# Altium schematic symbol library TI Stellaris.SchLib: 293 symbols (part 7 of 7)
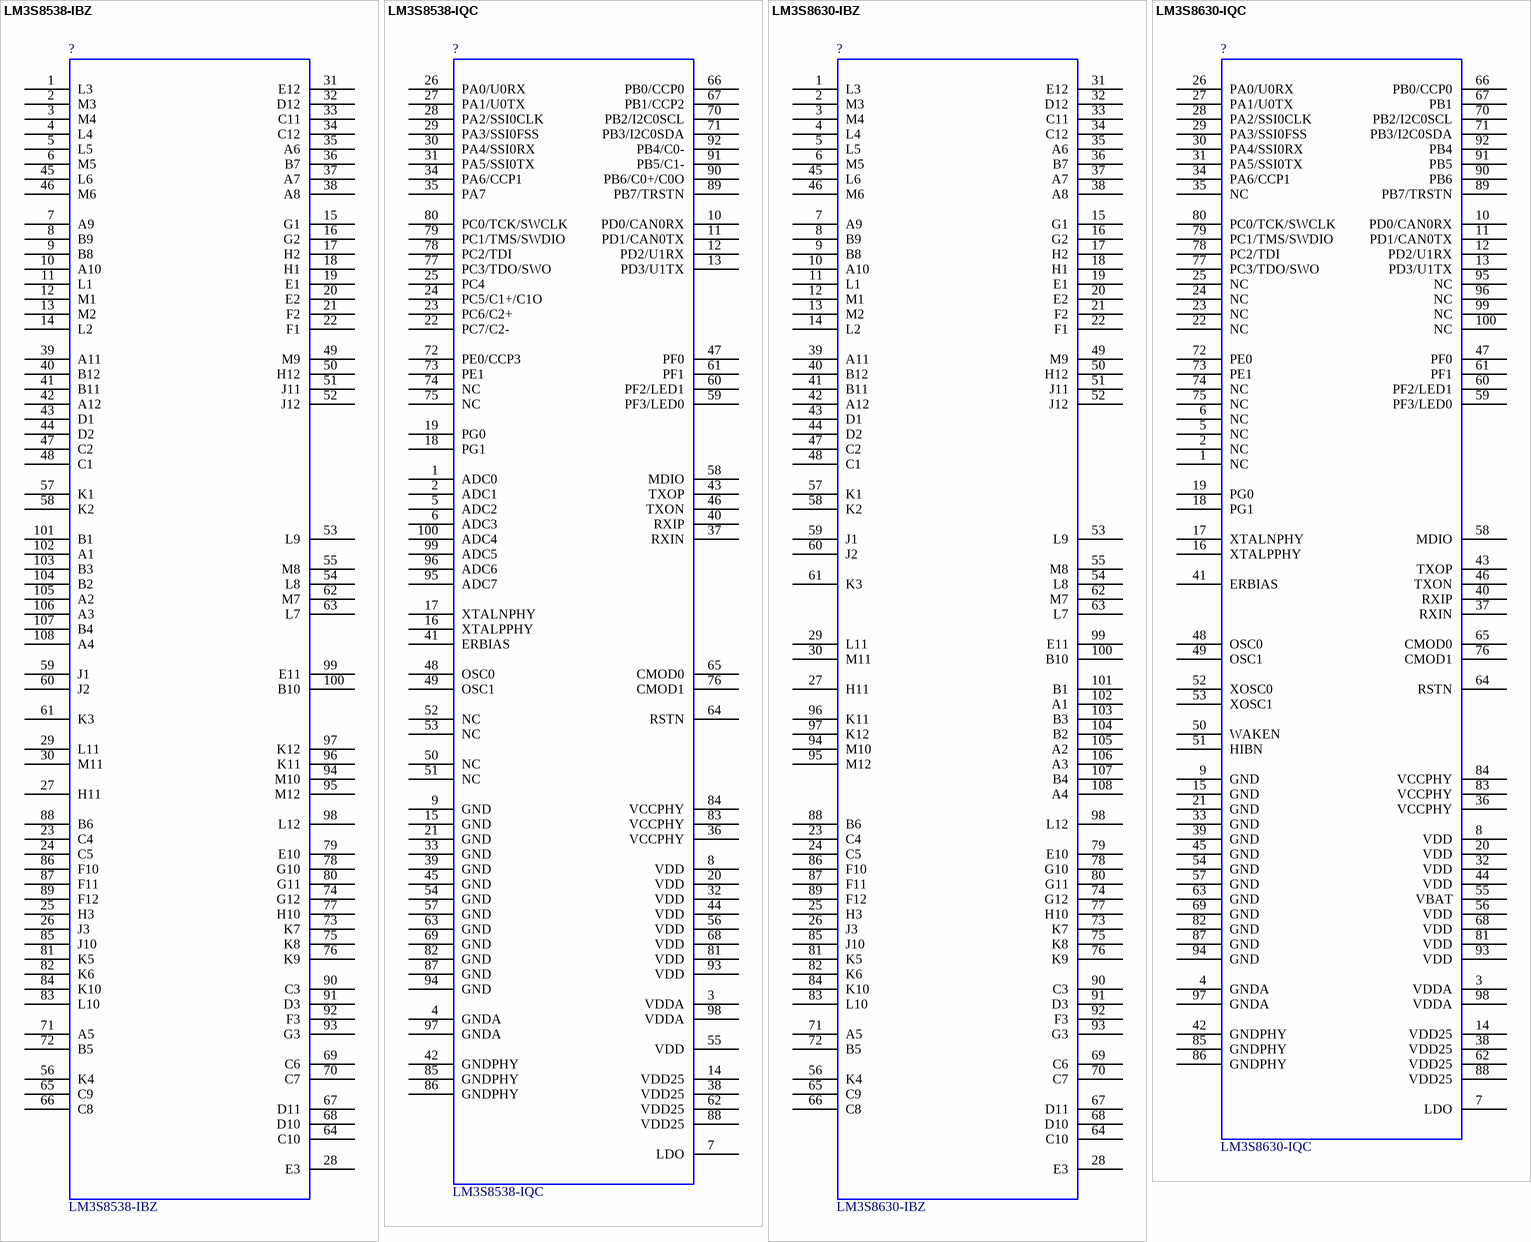
[diagram p75: symbols LM3S8538-IBZ to LM3S8630-IQC]

## LM3S8538-IBZ
designator ?  Comment_1: LM3S8538-IBZ  (hidden comment: *)
Stellaris ARM Cortex-M3 Microcontroller; Manufacturer #1: Luminary Micro; LMI Class: Fury; Designator: U; Part Number: LM3S8538-IBZ
footprint BGA108C80P12X12_1000X1000X150
pins: 1 L3, 2 M3, 3 M4, 4 L4, 5 L5, 6 M5, 7 A9, 8 B9, 9 B8, 10 A10, 11 L1, 12 M1, 13 M2, 14 L2, 15 G1, 16 G2, 17 H2, 18 H1, 19 E1, 20 E2, 21 F2, 22 F1, 23 C4, 24 C5, 25 H3, 26 J3, 27 H11, 28 E3, 29 L11, 30 M11, 31 E12, 32 D12, 33 C11, 34 C12, 35 A6, 36 B7, 37 A7, 38 A8, 39 A11, 40 B12, 41 B11, 42 A12, 43 D1, 44 D2, 45 L6, 46 M6, 47 C2, 48 C1, 49 M9, 50 H12, 51 J11, 52 J12, 53 L9, 54 L8, 55 M8, 56 K4, 57 K1, 58 K2, 59 J1, 60 J2, 61 K3, 62 M7, 63 L7, 64 C10, 65 C9, 66 C8, 67 D11, 68 D10, 69 C6, 70 C7, 71 A5, 72 B5, 73 K7, 74 G12, 75 K8, 76 K9, 77 H10, 78 G10, 79 E10, 80 G11, 81 K5, 82 K6, 83 L10, 84 K10, 85 J10, 86 F10, 87 F11, 88 B6, 89 F12, 90 C3, 91 D3, 92 F3, 93 G3, 94 M10, 95 M12, 96 K11, 97 K12, 98 L12, 99 E11, 100 B10, 101 B1, 102 A1, 103 B3, 104 B2, 105 A2, 106 A3, 107 B4, 108 A4

## LM3S8538-IQC
designator ?  Comment_1: LM3S8538-IQC  (hidden comment: *)
Stellaris ARM Cortex-M3 Microcontroller; Manufacturer #1: Luminary Micro; LMI Class: Fury; Designator: U; Part Number: LM3S8538-IQC
footprint QFP50P1600X1600X160-100N
pins: 1 ADC0, 2 ADC1, 3 VDDA, 4 GNDA, 5 ADC2, 6 ADC3, 7 LDO, 8 VDD, 9 GND, 10 PD0/CAN0RX, 11 PD1/CAN0TX, 12 PD2/U1RX, 13 PD3/U1TX, 14 VDD25, 15 GND, 16 XTALPPHY, 17 XTALNPHY, 18 PG1, 19 PG0, 20 VDD, 21 GND, 22 PC7/C2-, 23 PC6/C2+, 24 PC5/C1+/C1O, 25 PC4, 26 PA0/U0RX, 27 PA1/U0TX, 28 PA2/SSI0CLK, 29 PA3/SSI0FSS, 30 PA4/SSI0RX, 31 PA5/SSI0TX, 32 VDD, 33 GND, 34 PA6/CCP1, 35 PA7, 36 VCCPHY, 37 RXIN, 38 VDD25, 39 GND, 40 RXIP, 41 ERBIAS, 42 GNDPHY, 43 TXOP, 44 VDD, 45 GND, 46 TXON, 47 PF0, 48 OSC0, 49 OSC1, 50 NC, 51 NC, 52 NC, 53 NC, 54 GND, 55 VDD, 56 VDD, 57 GND, 58 MDIO, 59 PF3/LED0, 60 PF2/LED1, 61 PF1, 62 VDD25, 63 GND, 64 RSTN, 65 CMOD0, 66 PB0/CCP0, 67 PB1/CCP2, 68 VDD, 69 GND, 70 PB2/I2C0SCL, 71 PB3/I2C0SDA, 72 PE0/CCP3, 73 PE1, 74 NC, 75 NC, 76 CMOD1, 77 PC3/TDO/SWO, 78 PC2/TDI, 79 PC1/TMS/SWDIO, 80 PC0/TCK/SWCLK, 81 VDD, 82 GND, 83 VCCPHY, 84 VCCPHY, 85 GNDPHY, 86 GNDPHY, 87 GND, 88 VDD25, 89 PB7/TRSTN, 90 PB6/C0+/C0O, 91 PB5/C1-, 92 PB4/C0-, 93 VDD, 94 GND, 95 ADC7, 96 ADC6, 97 GNDA, 98 VDDA, 99 ADC5, 100 ADC4

## LM3S8630-IBZ
designator ?  Comment_1: LM3S8630-IBZ  (hidden comment: *)
Stellaris ARM Cortex-M3 Microcontroller; Manufacturer #1: Luminary Micro; LMI Class: Fury; Designator: U; Part Number: LM3S8630-IBZ
footprint BGA108C80P12X12_1000X1000X150
pins: 1 L3, 2 M3, 3 M4, 4 L4, 5 L5, 6 M5, 7 A9, 8 B9, 9 B8, 10 A10, 11 L1, 12 M1, 13 M2, 14 L2, 15 G1, 16 G2, 17 H2, 18 H1, 19 E1, 20 E2, 21 F2, 22 F1, 23 C4, 24 C5, 25 H3, 26 J3, 27 H11, 28 E3, 29 L11, 30 M11, 31 E12, 32 D12, 33 C11, 34 C12, 35 A6, 36 B7, 37 A7, 38 A8, 39 A11, 40 B12, 41 B11, 42 A12, 43 D1, 44 D2, 45 L6, 46 M6, 47 C2, 48 C1, 49 M9, 50 H12, 51 J11, 52 J12, 53 L9, 54 L8, 55 M8, 56 K4, 57 K1, 58 K2, 59 J1, 60 J2, 61 K3, 62 M7, 63 L7, 64 C10, 65 C9, 66 C8, 67 D11, 68 D10, 69 C6, 70 C7, 71 A5, 72 B5, 73 K7, 74 G12, 75 K8, 76 K9, 77 H10, 78 G10, 79 E10, 80 G11, 81 K5, 82 K6, 83 L10, 84 K10, 85 J10, 86 F10, 87 F11, 88 B6, 89 F12, 90 C3, 91 D3, 92 F3, 93 G3, 94 M10, 95 M12, 96 K11, 97 K12, 98 L12, 99 E11, 100 B10, 101 B1, 102 A1, 103 B3, 104 B2, 105 A2, 106 A3, 107 B4, 108 A4

## LM3S8630-IQC
designator ?  Comment_1: LM3S8630-IQC  (hidden comment: *)
Stellaris ARM Cortex-M3 Microcontroller; Manufacturer #1: Luminary Micro; LMI Class: Fury; Designator: U; Part Number: LM3S8630-IQC
footprint QFP50P1600X1600X160-100N
pins: 1 NC, 2 NC, 3 VDDA, 4 GNDA, 5 NC, 6 NC, 7 LDO, 8 VDD, 9 GND, 10 PD0/CAN0RX, 11 PD1/CAN0TX, 12 PD2/U1RX, 13 PD3/U1TX, 14 VDD25, 15 GND, 16 XTALPPHY, 17 XTALNPHY, 18 PG1, 19 PG0, 20 VDD, 21 GND, 22 NC, 23 NC, 24 NC, 25 NC, 26 PA0/U0RX, 27 PA1/U0TX, 28 PA2/SSI0CLK, 29 PA3/SSI0FSS, 30 PA4/SSI0RX, 31 PA5/SSI0TX, 32 VDD, 33 GND, 34 PA6/CCP1, 35 NC, 36 VCCPHY, 37 RXIN, 38 VDD25, 39 GND, 40 RXIP, 41 ERBIAS, 42 GNDPHY, 43 TXOP, 44 VDD, 45 GND, 46 TXON, 47 PF0, 48 OSC0, 49 OSC1, 50 WAKEN, 51 HIBN, 52 XOSC0, 53 XOSC1, 54 GND, 55 VBAT, 56 VDD, 57 GND, 58 MDIO, 59 PF3/LED0, 60 PF2/LED1, 61 PF1, 62 VDD25, 63 GND, 64 RSTN, 65 CMOD0, 66 PB0/CCP0, 67 PB1, 68 VDD, 69 GND, 70 PB2/I2C0SCL, 71 PB3/I2C0SDA, 72 PE0, 73 PE1, 74 NC, 75 NC, 76 CMOD1, 77 PC3/TDO/SWO, 78 PC2/TDI, 79 PC1/TMS/SWDIO, 80 PC0/TCK/SWCLK, 81 VDD, 82 GND, 83 VCCPHY, 84 VCCPHY, 85 GNDPHY, 86 GNDPHY, 87 GND, 88 VDD25, 89 PB7/TRSTN, 90 PB6, 91 PB5, 92 PB4, 93 VDD, 94 GND, 95 NC, 96 NC, 97 GNDA, 98 VDDA, 99 NC, 100 NC

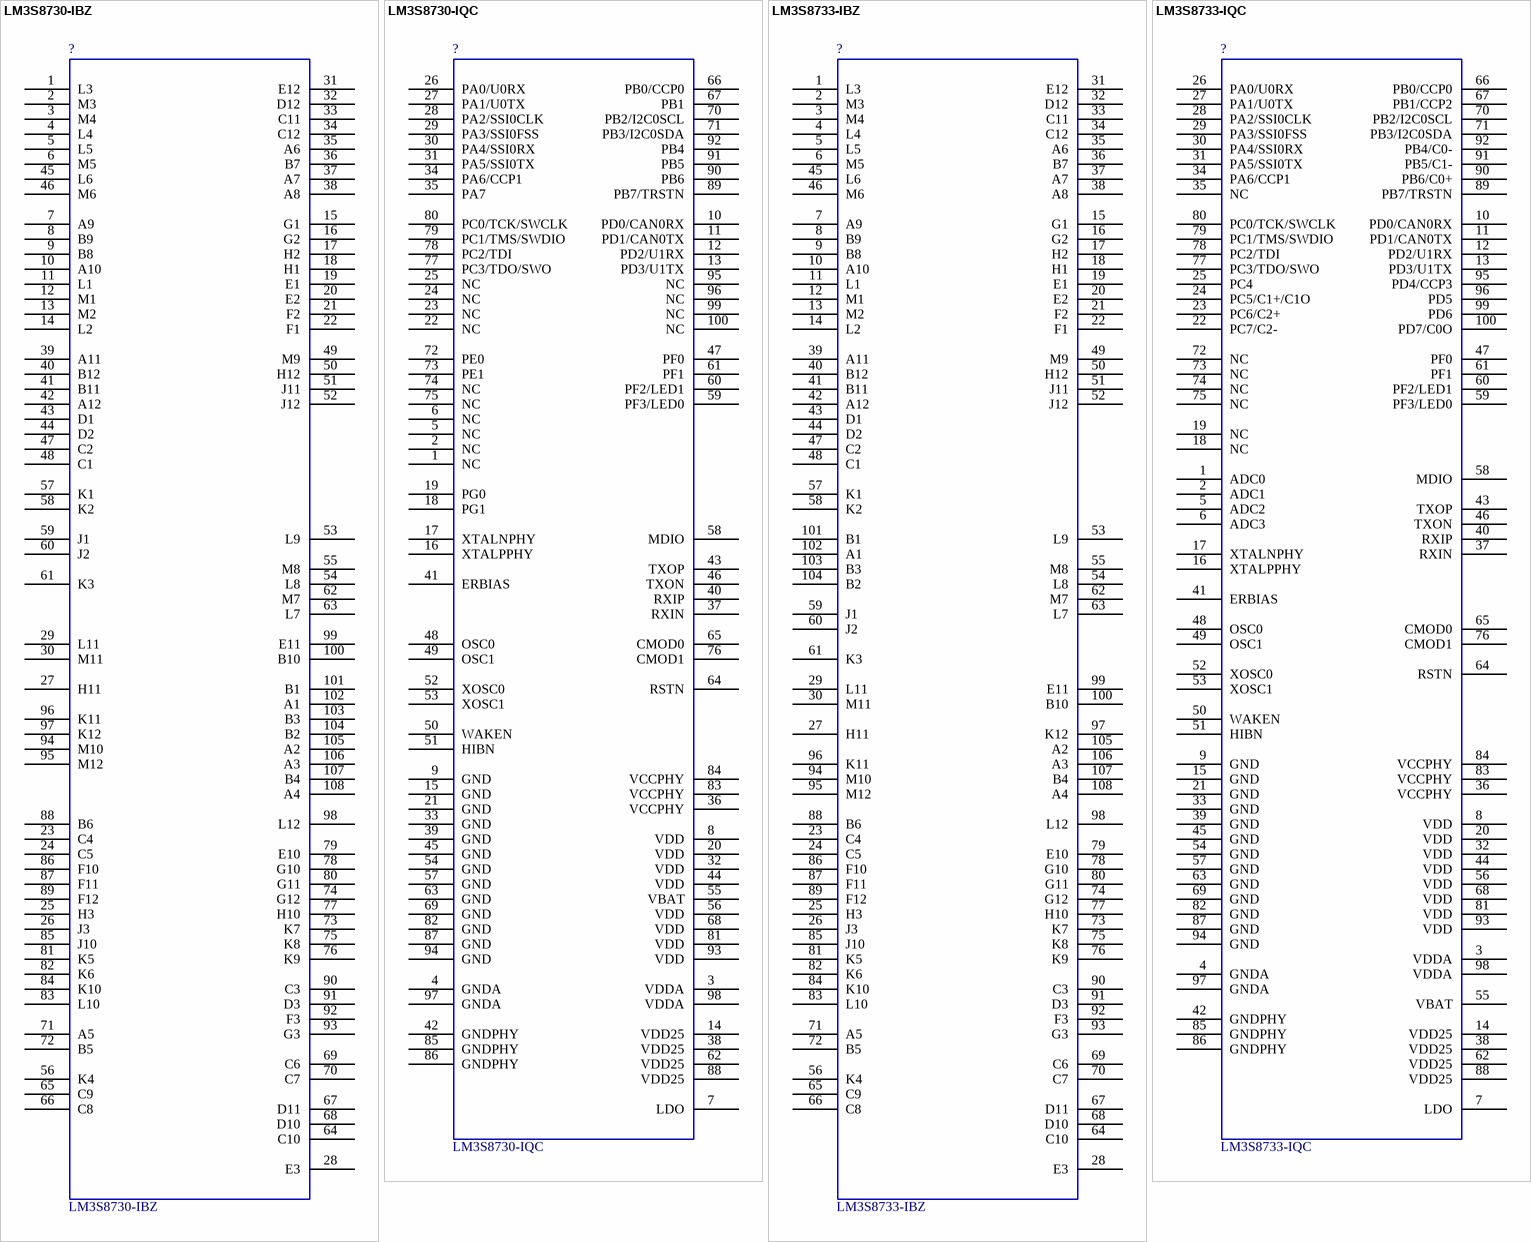
[diagram p63: symbols LM3S8730-IBZ to LM3S8733-IQC]

## LM3S8730-IBZ
designator ?  Comment_1: LM3S8730-IBZ  (hidden comment: *)
Stellaris ARM Cortex-M3 Microcontroller; Manufacturer #1: Luminary Micro; LMI Class: Fury; Designator: U; Part Number: LM3S8730-IBZ
footprint BGA108C80P12X12_1000X1000X150
pins: 1 L3, 2 M3, 3 M4, 4 L4, 5 L5, 6 M5, 7 A9, 8 B9, 9 B8, 10 A10, 11 L1, 12 M1, 13 M2, 14 L2, 15 G1, 16 G2, 17 H2, 18 H1, 19 E1, 20 E2, 21 F2, 22 F1, 23 C4, 24 C5, 25 H3, 26 J3, 27 H11, 28 E3, 29 L11, 30 M11, 31 E12, 32 D12, 33 C11, 34 C12, 35 A6, 36 B7, 37 A7, 38 A8, 39 A11, 40 B12, 41 B11, 42 A12, 43 D1, 44 D2, 45 L6, 46 M6, 47 C2, 48 C1, 49 M9, 50 H12, 51 J11, 52 J12, 53 L9, 54 L8, 55 M8, 56 K4, 57 K1, 58 K2, 59 J1, 60 J2, 61 K3, 62 M7, 63 L7, 64 C10, 65 C9, 66 C8, 67 D11, 68 D10, 69 C6, 70 C7, 71 A5, 72 B5, 73 K7, 74 G12, 75 K8, 76 K9, 77 H10, 78 G10, 79 E10, 80 G11, 81 K5, 82 K6, 83 L10, 84 K10, 85 J10, 86 F10, 87 F11, 88 B6, 89 F12, 90 C3, 91 D3, 92 F3, 93 G3, 94 M10, 95 M12, 96 K11, 97 K12, 98 L12, 99 E11, 100 B10, 101 B1, 102 A1, 103 B3, 104 B2, 105 A2, 106 A3, 107 B4, 108 A4

## LM3S8730-IQC
designator ?  Comment_1: LM3S8730-IQC  (hidden comment: *)
Stellaris ARM Cortex-M3 Microcontroller; Manufacturer #1: Luminary Micro; LMI Class: Fury; Designator: U; Part Number: LM3S8730-IQC
footprint QFP50P1600X1600X160-100N
pins: 1 NC, 2 NC, 3 VDDA, 4 GNDA, 5 NC, 6 NC, 7 LDO, 8 VDD, 9 GND, 10 PD0/CAN0RX, 11 PD1/CAN0TX, 12 PD2/U1RX, 13 PD3/U1TX, 14 VDD25, 15 GND, 16 XTALPPHY, 17 XTALNPHY, 18 PG1, 19 PG0, 20 VDD, 21 GND, 22 NC, 23 NC, 24 NC, 25 NC, 26 PA0/U0RX, 27 PA1/U0TX, 28 PA2/SSI0CLK, 29 PA3/SSI0FSS, 30 PA4/SSI0RX, 31 PA5/SSI0TX, 32 VDD, 33 GND, 34 PA6/CCP1, 35 PA7, 36 VCCPHY, 37 RXIN, 38 VDD25, 39 GND, 40 RXIP, 41 ERBIAS, 42 GNDPHY, 43 TXOP, 44 VDD, 45 GND, 46 TXON, 47 PF0, 48 OSC0, 49 OSC1, 50 WAKEN, 51 HIBN, 52 XOSC0, 53 XOSC1, 54 GND, 55 VBAT, 56 VDD, 57 GND, 58 MDIO, 59 PF3/LED0, 60 PF2/LED1, 61 PF1, 62 VDD25, 63 GND, 64 RSTN, 65 CMOD0, 66 PB0/CCP0, 67 PB1, 68 VDD, 69 GND, 70 PB2/I2C0SCL, 71 PB3/I2C0SDA, 72 PE0, 73 PE1, 74 NC, 75 NC, 76 CMOD1, 77 PC3/TDO/SWO, 78 PC2/TDI, 79 PC1/TMS/SWDIO, 80 PC0/TCK/SWCLK, 81 VDD, 82 GND, 83 VCCPHY, 84 VCCPHY, 85 GNDPHY, 86 GNDPHY, 87 GND, 88 VDD25, 89 PB7/TRSTN, 90 PB6, 91 PB5, 92 PB4, 93 VDD, 94 GND, 95 NC, 96 NC, 97 GNDA, 98 VDDA, 99 NC, 100 NC

## LM3S8733-IBZ
designator ?  Comment_1: LM3S8733-IBZ  (hidden comment: *)
Stellaris ARM Cortex-M3 Microcontroller; Manufacturer #1: Luminary Micro; LMI Class: Fury; Designator: U; Part Number: LM3S8733-IBZ
footprint BGA108C80P12X12_1000X1000X150
pins: 1 L3, 2 M3, 3 M4, 4 L4, 5 L5, 6 M5, 7 A9, 8 B9, 9 B8, 10 A10, 11 L1, 12 M1, 13 M2, 14 L2, 15 G1, 16 G2, 17 H2, 18 H1, 19 E1, 20 E2, 21 F2, 22 F1, 23 C4, 24 C5, 25 H3, 26 J3, 27 H11, 28 E3, 29 L11, 30 M11, 31 E12, 32 D12, 33 C11, 34 C12, 35 A6, 36 B7, 37 A7, 38 A8, 39 A11, 40 B12, 41 B11, 42 A12, 43 D1, 44 D2, 45 L6, 46 M6, 47 C2, 48 C1, 49 M9, 50 H12, 51 J11, 52 J12, 53 L9, 54 L8, 55 M8, 56 K4, 57 K1, 58 K2, 59 J1, 60 J2, 61 K3, 62 M7, 63 L7, 64 C10, 65 C9, 66 C8, 67 D11, 68 D10, 69 C6, 70 C7, 71 A5, 72 B5, 73 K7, 74 G12, 75 K8, 76 K9, 77 H10, 78 G10, 79 E10, 80 G11, 81 K5, 82 K6, 83 L10, 84 K10, 85 J10, 86 F10, 87 F11, 88 B6, 89 F12, 90 C3, 91 D3, 92 F3, 93 G3, 94 M10, 95 M12, 96 K11, 97 K12, 98 L12, 99 E11, 100 B10, 101 B1, 102 A1, 103 B3, 104 B2, 105 A2, 106 A3, 107 B4, 108 A4

## LM3S8733-IQC
designator ?  Comment_1: LM3S8733-IQC  (hidden comment: *)
Stellaris ARM Cortex-M3 Microcontroller; Manufacturer #1: Luminary Micro; LMI Class: Fury; Designator: U; Part Number: LM3S8733-IQC
footprint QFP50P1600X1600X160-100N
pins: 1 ADC0, 2 ADC1, 3 VDDA, 4 GNDA, 5 ADC2, 6 ADC3, 7 LDO, 8 VDD, 9 GND, 10 PD0/CAN0RX, 11 PD1/CAN0TX, 12 PD2/U1RX, 13 PD3/U1TX, 14 VDD25, 15 GND, 16 XTALPPHY, 17 XTALNPHY, 18 NC, 19 NC, 20 VDD, 21 GND, 22 PC7/C2-, 23 PC6/C2+, 24 PC5/C1+/C1O, 25 PC4, 26 PA0/U0RX, 27 PA1/U0TX, 28 PA2/SSI0CLK, 29 PA3/SSI0FSS, 30 PA4/SSI0RX, 31 PA5/SSI0TX, 32 VDD, 33 GND, 34 PA6/CCP1, 35 NC, 36 VCCPHY, 37 RXIN, 38 VDD25, 39 GND, 40 RXIP, 41 ERBIAS, 42 GNDPHY, 43 TXOP, 44 VDD, 45 GND, 46 TXON, 47 PF0, 48 OSC0, 49 OSC1, 50 WAKEN, 51 HIBN, 52 XOSC0, 53 XOSC1, 54 GND, 55 VBAT, 56 VDD, 57 GND, 58 MDIO, 59 PF3/LED0, 60 PF2/LED1, 61 PF1, 62 VDD25, 63 GND, 64 RSTN, 65 CMOD0, 66 PB0/CCP0, 67 PB1/CCP2, 68 VDD, 69 GND, 70 PB2/I2C0SCL, 71 PB3/I2C0SDA, 72 NC, 73 NC, 74 NC, 75 NC, 76 CMOD1, 77 PC3/TDO/SWO, 78 PC2/TDI, 79 PC1/TMS/SWDIO, 80 PC0/TCK/SWCLK, 81 VDD, 82 GND, 83 VCCPHY, 84 VCCPHY, 85 GNDPHY, 86 GNDPHY, 87 GND, 88 VDD25, 89 PB7/TRSTN, 90 PB6/C0+, 91 PB5/C1-, 92 PB4/C0-, 93 VDD, 94 GND, 95 PD4/CCP3, 96 PD5, 97 GNDA, 98 VDDA, 99 PD6, 100 PD7/C0O

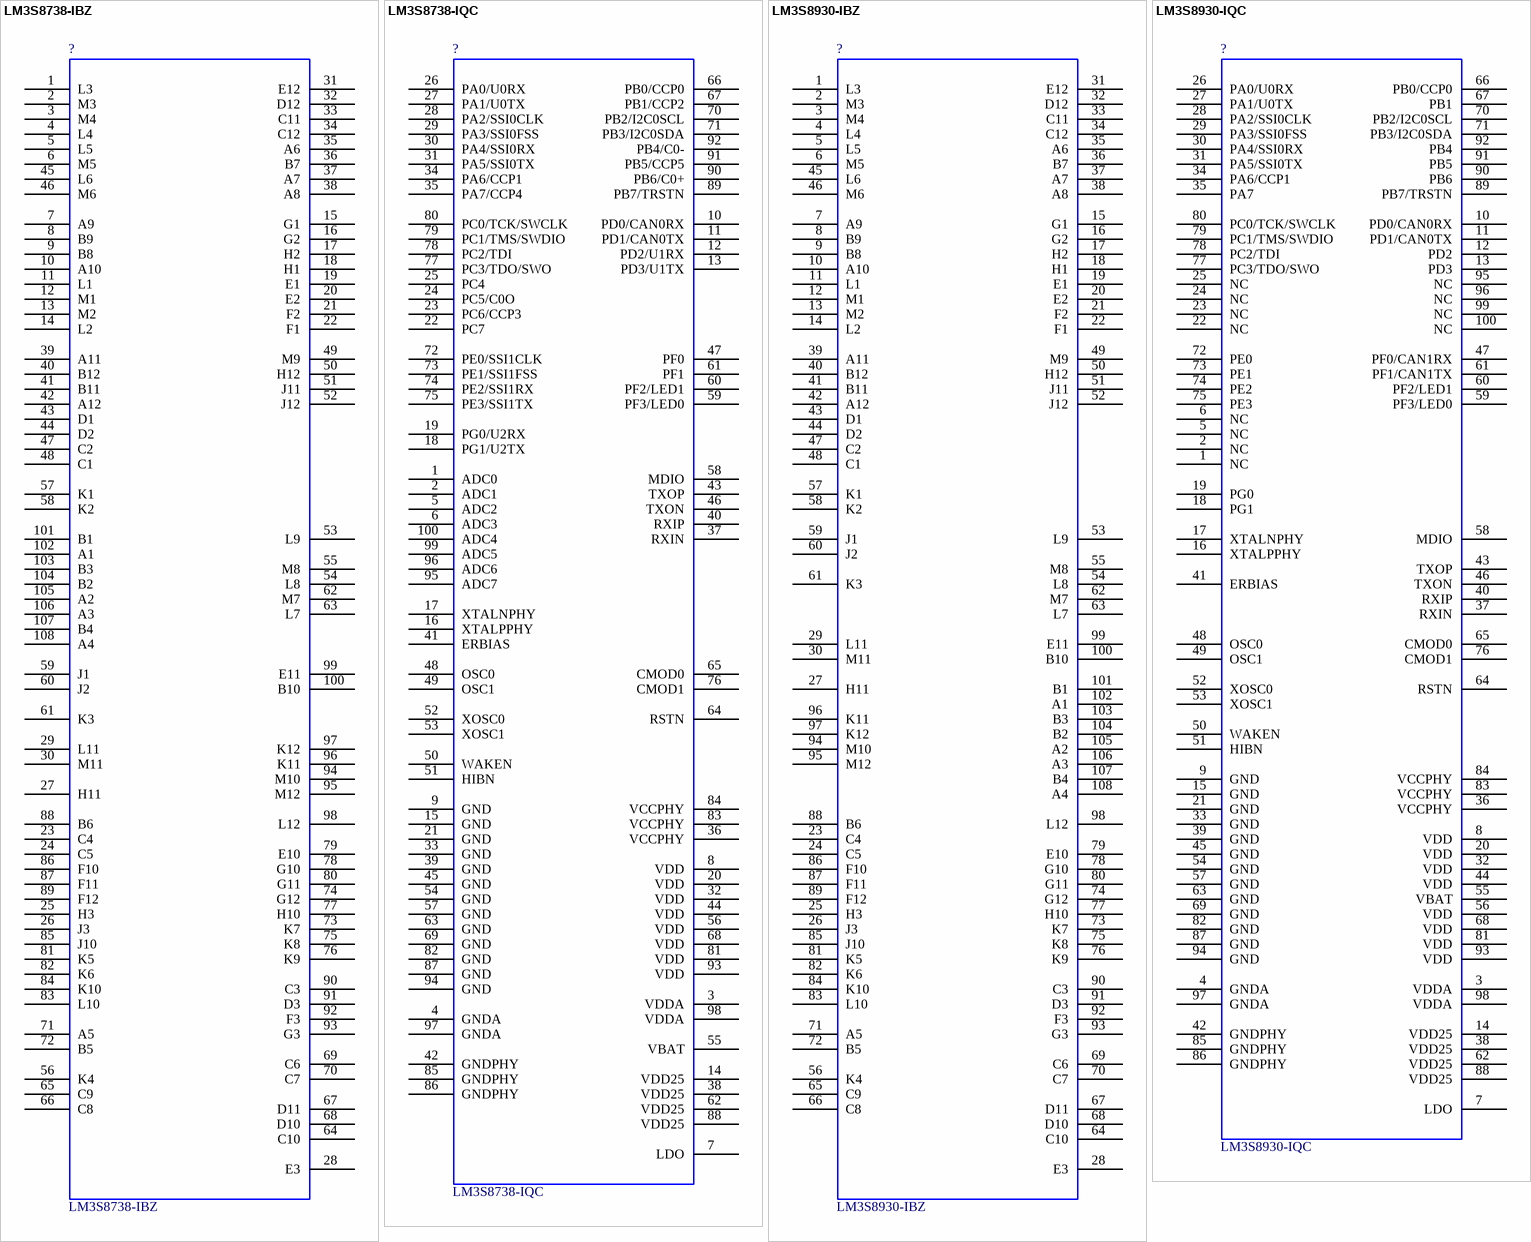
[diagram p64: symbols LM3S8738-IBZ to LM3S8930-IQC]

## LM3S8738-IBZ
designator ?  Comment_1: LM3S8738-IBZ  (hidden comment: *)
Stellaris ARM Cortex-M3 Microcontroller; Manufacturer #1: Luminary Micro; LMI Class: Fury; Designator: U; Part Number: LM3S8738-IBZ
footprint BGA108C80P12X12_1000X1000X150
pins: 1 L3, 2 M3, 3 M4, 4 L4, 5 L5, 6 M5, 7 A9, 8 B9, 9 B8, 10 A10, 11 L1, 12 M1, 13 M2, 14 L2, 15 G1, 16 G2, 17 H2, 18 H1, 19 E1, 20 E2, 21 F2, 22 F1, 23 C4, 24 C5, 25 H3, 26 J3, 27 H11, 28 E3, 29 L11, 30 M11, 31 E12, 32 D12, 33 C11, 34 C12, 35 A6, 36 B7, 37 A7, 38 A8, 39 A11, 40 B12, 41 B11, 42 A12, 43 D1, 44 D2, 45 L6, 46 M6, 47 C2, 48 C1, 49 M9, 50 H12, 51 J11, 52 J12, 53 L9, 54 L8, 55 M8, 56 K4, 57 K1, 58 K2, 59 J1, 60 J2, 61 K3, 62 M7, 63 L7, 64 C10, 65 C9, 66 C8, 67 D11, 68 D10, 69 C6, 70 C7, 71 A5, 72 B5, 73 K7, 74 G12, 75 K8, 76 K9, 77 H10, 78 G10, 79 E10, 80 G11, 81 K5, 82 K6, 83 L10, 84 K10, 85 J10, 86 F10, 87 F11, 88 B6, 89 F12, 90 C3, 91 D3, 92 F3, 93 G3, 94 M10, 95 M12, 96 K11, 97 K12, 98 L12, 99 E11, 100 B10, 101 B1, 102 A1, 103 B3, 104 B2, 105 A2, 106 A3, 107 B4, 108 A4

## LM3S8738-IQC
designator ?  Comment_1: LM3S8738-IQC  (hidden comment: *)
Stellaris ARM Cortex-M3 Microcontroller; Manufacturer #1: Luminary Micro; LMI Class: Fury; Designator: U; Part Number: LM3S8738-IQC
footprint QFP50P1600X1600X160-100N
pins: 1 ADC0, 2 ADC1, 3 VDDA, 4 GNDA, 5 ADC2, 6 ADC3, 7 LDO, 8 VDD, 9 GND, 10 PD0/CAN0RX, 11 PD1/CAN0TX, 12 PD2/U1RX, 13 PD3/U1TX, 14 VDD25, 15 GND, 16 XTALPPHY, 17 XTALNPHY, 18 PG1/U2TX, 19 PG0/U2RX, 20 VDD, 21 GND, 22 PC7, 23 PC6/CCP3, 24 PC5/C0O, 25 PC4, 26 PA0/U0RX, 27 PA1/U0TX, 28 PA2/SSI0CLK, 29 PA3/SSI0FSS, 30 PA4/SSI0RX, 31 PA5/SSI0TX, 32 VDD, 33 GND, 34 PA6/CCP1, 35 PA7/CCP4, 36 VCCPHY, 37 RXIN, 38 VDD25, 39 GND, 40 RXIP, 41 ERBIAS, 42 GNDPHY, 43 TXOP, 44 VDD, 45 GND, 46 TXON, 47 PF0, 48 OSC0, 49 OSC1, 50 WAKEN, 51 HIBN, 52 XOSC0, 53 XOSC1, 54 GND, 55 VBAT, 56 VDD, 57 GND, 58 MDIO, 59 PF3/LED0, 60 PF2/LED1, 61 PF1, 62 VDD25, 63 GND, 64 RSTN, 65 CMOD0, 66 PB0/CCP0, 67 PB1/CCP2, 68 VDD, 69 GND, 70 PB2/I2C0SCL, 71 PB3/I2C0SDA, 72 PE0/SSI1CLK, 73 PE1/SSI1FSS, 74 PE2/SSI1RX, 75 PE3/SSI1TX, 76 CMOD1, 77 PC3/TDO/SWO, 78 PC2/TDI, 79 PC1/TMS/SWDIO, 80 PC0/TCK/SWCLK, 81 VDD, 82 GND, 83 VCCPHY, 84 VCCPHY, 85 GNDPHY, 86 GNDPHY, 87 GND, 88 VDD25, 89 PB7/TRSTN, 90 PB6/C0+, 91 PB5/CCP5, 92 PB4/C0-, 93 VDD, 94 GND, 95 ADC7, 96 ADC6, 97 GNDA, 98 VDDA, 99 ADC5, 100 ADC4

## LM3S8930-IBZ
designator ?  Comment_1: LM3S8930-IBZ  (hidden comment: *)
Stellaris ARM Cortex-M3 Microcontroller; Manufacturer #1: Luminary Micro; LMI Class: Fury; Designator: U; Part Number: LM3S8930-IBZ
footprint BGA108C80P12X12_1000X1000X150
pins: 1 L3, 2 M3, 3 M4, 4 L4, 5 L5, 6 M5, 7 A9, 8 B9, 9 B8, 10 A10, 11 L1, 12 M1, 13 M2, 14 L2, 15 G1, 16 G2, 17 H2, 18 H1, 19 E1, 20 E2, 21 F2, 22 F1, 23 C4, 24 C5, 25 H3, 26 J3, 27 H11, 28 E3, 29 L11, 30 M11, 31 E12, 32 D12, 33 C11, 34 C12, 35 A6, 36 B7, 37 A7, 38 A8, 39 A11, 40 B12, 41 B11, 42 A12, 43 D1, 44 D2, 45 L6, 46 M6, 47 C2, 48 C1, 49 M9, 50 H12, 51 J11, 52 J12, 53 L9, 54 L8, 55 M8, 56 K4, 57 K1, 58 K2, 59 J1, 60 J2, 61 K3, 62 M7, 63 L7, 64 C10, 65 C9, 66 C8, 67 D11, 68 D10, 69 C6, 70 C7, 71 A5, 72 B5, 73 K7, 74 G12, 75 K8, 76 K9, 77 H10, 78 G10, 79 E10, 80 G11, 81 K5, 82 K6, 83 L10, 84 K10, 85 J10, 86 F10, 87 F11, 88 B6, 89 F12, 90 C3, 91 D3, 92 F3, 93 G3, 94 M10, 95 M12, 96 K11, 97 K12, 98 L12, 99 E11, 100 B10, 101 B1, 102 A1, 103 B3, 104 B2, 105 A2, 106 A3, 107 B4, 108 A4

## LM3S8930-IQC
designator ?  Comment_1: LM3S8930-IQC  (hidden comment: *)
Stellaris ARM Cortex-M3 Microcontroller; Manufacturer #1: Luminary Micro; LMI Class: Fury; Designator: U; Part Number: LM3S8930-IQC
footprint QFP50P1600X1600X160-100N
pins: 1 NC, 2 NC, 3 VDDA, 4 GNDA, 5 NC, 6 NC, 7 LDO, 8 VDD, 9 GND, 10 PD0/CAN0RX, 11 PD1/CAN0TX, 12 PD2, 13 PD3, 14 VDD25, 15 GND, 16 XTALPPHY, 17 XTALNPHY, 18 PG1, 19 PG0, 20 VDD, 21 GND, 22 NC, 23 NC, 24 NC, 25 NC, 26 PA0/U0RX, 27 PA1/U0TX, 28 PA2/SSI0CLK, 29 PA3/SSI0FSS, 30 PA4/SSI0RX, 31 PA5/SSI0TX, 32 VDD, 33 GND, 34 PA6/CCP1, 35 PA7, 36 VCCPHY, 37 RXIN, 38 VDD25, 39 GND, 40 RXIP, 41 ERBIAS, 42 GNDPHY, 43 TXOP, 44 VDD, 45 GND, 46 TXON, 47 PF0/CAN1RX, 48 OSC0, 49 OSC1, 50 WAKEN, 51 HIBN, 52 XOSC0, 53 XOSC1, 54 GND, 55 VBAT, 56 VDD, 57 GND, 58 MDIO, 59 PF3/LED0, 60 PF2/LED1, 61 PF1/CAN1TX, 62 VDD25, 63 GND, 64 RSTN, 65 CMOD0, 66 PB0/CCP0, 67 PB1, 68 VDD, 69 GND, 70 PB2/I2C0SCL, 71 PB3/I2C0SDA, 72 PE0, 73 PE1, 74 PE2, 75 PE3, 76 CMOD1, 77 PC3/TDO/SWO, 78 PC2/TDI, 79 PC1/TMS/SWDIO, 80 PC0/TCK/SWCLK, 81 VDD, 82 GND, 83 VCCPHY, 84 VCCPHY, 85 GNDPHY, 86 GNDPHY, 87 GND, 88 VDD25, 89 PB7/TRSTN, 90 PB6, 91 PB5, 92 PB4, 93 VDD, 94 GND, 95 NC, 96 NC, 97 GNDA, 98 VDDA, 99 NC, 100 NC

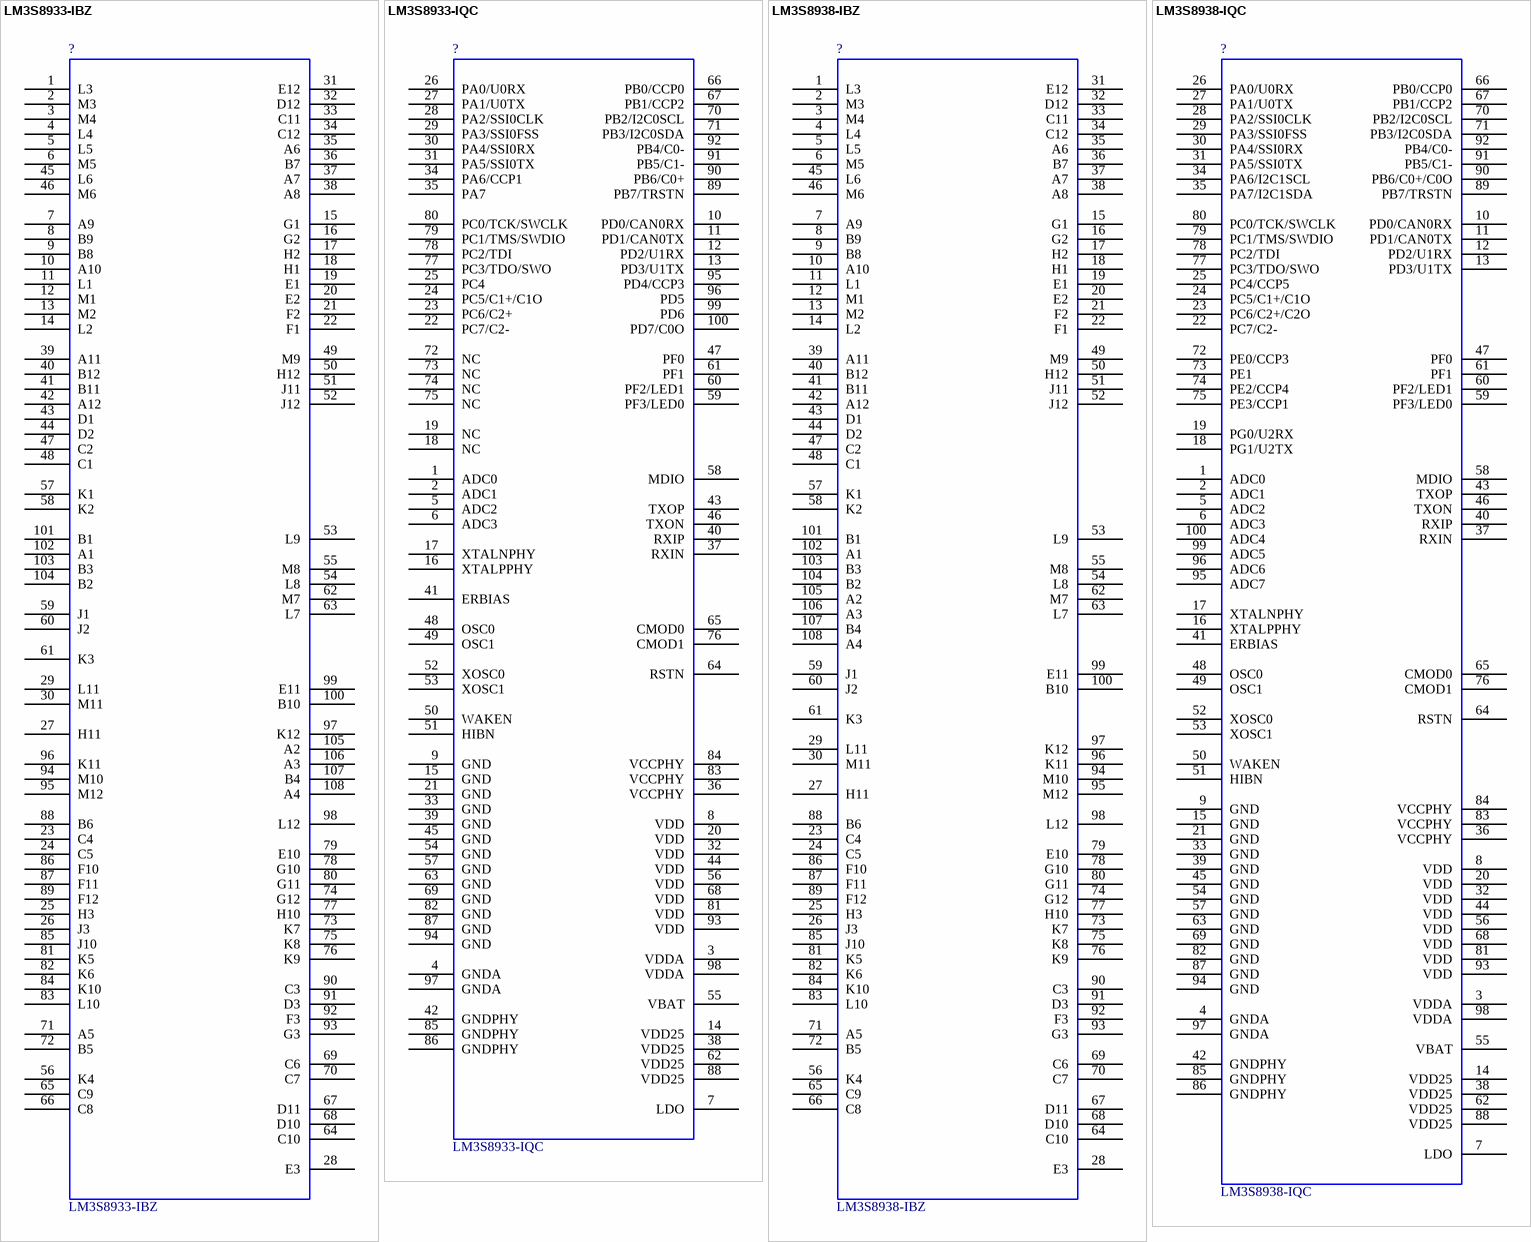
[diagram p65: symbols LM3S8933-IBZ to LM3S8938-IQC]

## LM3S8933-IBZ
designator ?  Comment_1: LM3S8933-IBZ  (hidden comment: *)
Stellaris ARM Cortex-M3 Microcontroller; Manufacturer #1: Luminary Micro; LMI Class: Fury; Designator: U; Part Number: LM3S8933-IBZ
footprint BGA108C80P12X12_1000X1000X150
pins: 1 L3, 2 M3, 3 M4, 4 L4, 5 L5, 6 M5, 7 A9, 8 B9, 9 B8, 10 A10, 11 L1, 12 M1, 13 M2, 14 L2, 15 G1, 16 G2, 17 H2, 18 H1, 19 E1, 20 E2, 21 F2, 22 F1, 23 C4, 24 C5, 25 H3, 26 J3, 27 H11, 28 E3, 29 L11, 30 M11, 31 E12, 32 D12, 33 C11, 34 C12, 35 A6, 36 B7, 37 A7, 38 A8, 39 A11, 40 B12, 41 B11, 42 A12, 43 D1, 44 D2, 45 L6, 46 M6, 47 C2, 48 C1, 49 M9, 50 H12, 51 J11, 52 J12, 53 L9, 54 L8, 55 M8, 56 K4, 57 K1, 58 K2, 59 J1, 60 J2, 61 K3, 62 M7, 63 L7, 64 C10, 65 C9, 66 C8, 67 D11, 68 D10, 69 C6, 70 C7, 71 A5, 72 B5, 73 K7, 74 G12, 75 K8, 76 K9, 77 H10, 78 G10, 79 E10, 80 G11, 81 K5, 82 K6, 83 L10, 84 K10, 85 J10, 86 F10, 87 F11, 88 B6, 89 F12, 90 C3, 91 D3, 92 F3, 93 G3, 94 M10, 95 M12, 96 K11, 97 K12, 98 L12, 99 E11, 100 B10, 101 B1, 102 A1, 103 B3, 104 B2, 105 A2, 106 A3, 107 B4, 108 A4

## LM3S8933-IQC
designator ?  Comment_1: LM3S8933-IQC  (hidden comment: *)
Stellaris ARM Cortex-M3 Microcontroller; Manufacturer #1: Luminary Micro; LMI Class: Fury; Designator: U; Part Number: LM3S8933-IQC
footprint QFP50P1600X1600X160-100N
pins: 1 ADC0, 2 ADC1, 3 VDDA, 4 GNDA, 5 ADC2, 6 ADC3, 7 LDO, 8 VDD, 9 GND, 10 PD0/CAN0RX, 11 PD1/CAN0TX, 12 PD2/U1RX, 13 PD3/U1TX, 14 VDD25, 15 GND, 16 XTALPPHY, 17 XTALNPHY, 18 NC, 19 NC, 20 VDD, 21 GND, 22 PC7/C2-, 23 PC6/C2+, 24 PC5/C1+/C1O, 25 PC4, 26 PA0/U0RX, 27 PA1/U0TX, 28 PA2/SSI0CLK, 29 PA3/SSI0FSS, 30 PA4/SSI0RX, 31 PA5/SSI0TX, 32 VDD, 33 GND, 34 PA6/CCP1, 35 PA7, 36 VCCPHY, 37 RXIN, 38 VDD25, 39 GND, 40 RXIP, 41 ERBIAS, 42 GNDPHY, 43 TXOP, 44 VDD, 45 GND, 46 TXON, 47 PF0, 48 OSC0, 49 OSC1, 50 WAKEN, 51 HIBN, 52 XOSC0, 53 XOSC1, 54 GND, 55 VBAT, 56 VDD, 57 GND, 58 MDIO, 59 PF3/LED0, 60 PF2/LED1, 61 PF1, 62 VDD25, 63 GND, 64 RSTN, 65 CMOD0, 66 PB0/CCP0, 67 PB1/CCP2, 68 VDD, 69 GND, 70 PB2/I2C0SCL, 71 PB3/I2C0SDA, 72 NC, 73 NC, 74 NC, 75 NC, 76 CMOD1, 77 PC3/TDO/SWO, 78 PC2/TDI, 79 PC1/TMS/SWDIO, 80 PC0/TCK/SWCLK, 81 VDD, 82 GND, 83 VCCPHY, 84 VCCPHY, 85 GNDPHY, 86 GNDPHY, 87 GND, 88 VDD25, 89 PB7/TRSTN, 90 PB6/C0+, 91 PB5/C1-, 92 PB4/C0-, 93 VDD, 94 GND, 95 PD4/CCP3, 96 PD5, 97 GNDA, 98 VDDA, 99 PD6, 100 PD7/C0O

## LM3S8938-IBZ
designator ?  Comment_1: LM3S8938-IBZ  (hidden comment: *)
Stellaris ARM Cortex-M3 Microcontroller; Manufacturer #1: Luminary Micro; LMI Class: Fury; Designator: U; Part Number: LM3S8938-IBZ
footprint BGA108C80P12X12_1000X1000X150
pins: 1 L3, 2 M3, 3 M4, 4 L4, 5 L5, 6 M5, 7 A9, 8 B9, 9 B8, 10 A10, 11 L1, 12 M1, 13 M2, 14 L2, 15 G1, 16 G2, 17 H2, 18 H1, 19 E1, 20 E2, 21 F2, 22 F1, 23 C4, 24 C5, 25 H3, 26 J3, 27 H11, 28 E3, 29 L11, 30 M11, 31 E12, 32 D12, 33 C11, 34 C12, 35 A6, 36 B7, 37 A7, 38 A8, 39 A11, 40 B12, 41 B11, 42 A12, 43 D1, 44 D2, 45 L6, 46 M6, 47 C2, 48 C1, 49 M9, 50 H12, 51 J11, 52 J12, 53 L9, 54 L8, 55 M8, 56 K4, 57 K1, 58 K2, 59 J1, 60 J2, 61 K3, 62 M7, 63 L7, 64 C10, 65 C9, 66 C8, 67 D11, 68 D10, 69 C6, 70 C7, 71 A5, 72 B5, 73 K7, 74 G12, 75 K8, 76 K9, 77 H10, 78 G10, 79 E10, 80 G11, 81 K5, 82 K6, 83 L10, 84 K10, 85 J10, 86 F10, 87 F11, 88 B6, 89 F12, 90 C3, 91 D3, 92 F3, 93 G3, 94 M10, 95 M12, 96 K11, 97 K12, 98 L12, 99 E11, 100 B10, 101 B1, 102 A1, 103 B3, 104 B2, 105 A2, 106 A3, 107 B4, 108 A4

## LM3S8938-IQC
designator ?  Comment_1: LM3S8938-IQC  (hidden comment: *)
Stellaris ARM Cortex-M3 Microcontroller; Manufacturer #1: Luminary Micro; LMI Class: Fury; Designator: U; Part Number: LM3S8938-IQC
footprint QFP50P1600X1600X160-100N
pins: 1 ADC0, 2 ADC1, 3 VDDA, 4 GNDA, 5 ADC2, 6 ADC3, 7 LDO, 8 VDD, 9 GND, 10 PD0/CAN0RX, 11 PD1/CAN0TX, 12 PD2/U1RX, 13 PD3/U1TX, 14 VDD25, 15 GND, 16 XTALPPHY, 17 XTALNPHY, 18 PG1/U2TX, 19 PG0/U2RX, 20 VDD, 21 GND, 22 PC7/C2-, 23 PC6/C2+/C2O, 24 PC5/C1+/C1O, 25 PC4/CCP5, 26 PA0/U0RX, 27 PA1/U0TX, 28 PA2/SSI0CLK, 29 PA3/SSI0FSS, 30 PA4/SSI0RX, 31 PA5/SSI0TX, 32 VDD, 33 GND, 34 PA6/I2C1SCL, 35 PA7/I2C1SDA, 36 VCCPHY, 37 RXIN, 38 VDD25, 39 GND, 40 RXIP, 41 ERBIAS, 42 GNDPHY, 43 TXOP, 44 VDD, 45 GND, 46 TXON, 47 PF0, 48 OSC0, 49 OSC1, 50 WAKEN, 51 HIBN, 52 XOSC0, 53 XOSC1, 54 GND, 55 VBAT, 56 VDD, 57 GND, 58 MDIO, 59 PF3/LED0, 60 PF2/LED1, 61 PF1, 62 VDD25, 63 GND, 64 RSTN, 65 CMOD0, 66 PB0/CCP0, 67 PB1/CCP2, 68 VDD, 69 GND, 70 PB2/I2C0SCL, 71 PB3/I2C0SDA, 72 PE0/CCP3, 73 PE1, 74 PE2/CCP4, 75 PE3/CCP1, 76 CMOD1, 77 PC3/TDO/SWO, 78 PC2/TDI, 79 PC1/TMS/SWDIO, 80 PC0/TCK/SWCLK, 81 VDD, 82 GND, 83 VCCPHY, 84 VCCPHY, 85 GNDPHY, 86 GNDPHY, 87 GND, 88 VDD25, 89 PB7/TRSTN, 90 PB6/C0+/C0O, 91 PB5/C1-, 92 PB4/C0-, 93 VDD, 94 GND, 95 ADC7, 96 ADC6, 97 GNDA, 98 VDDA, 99 ADC5, 100 ADC4

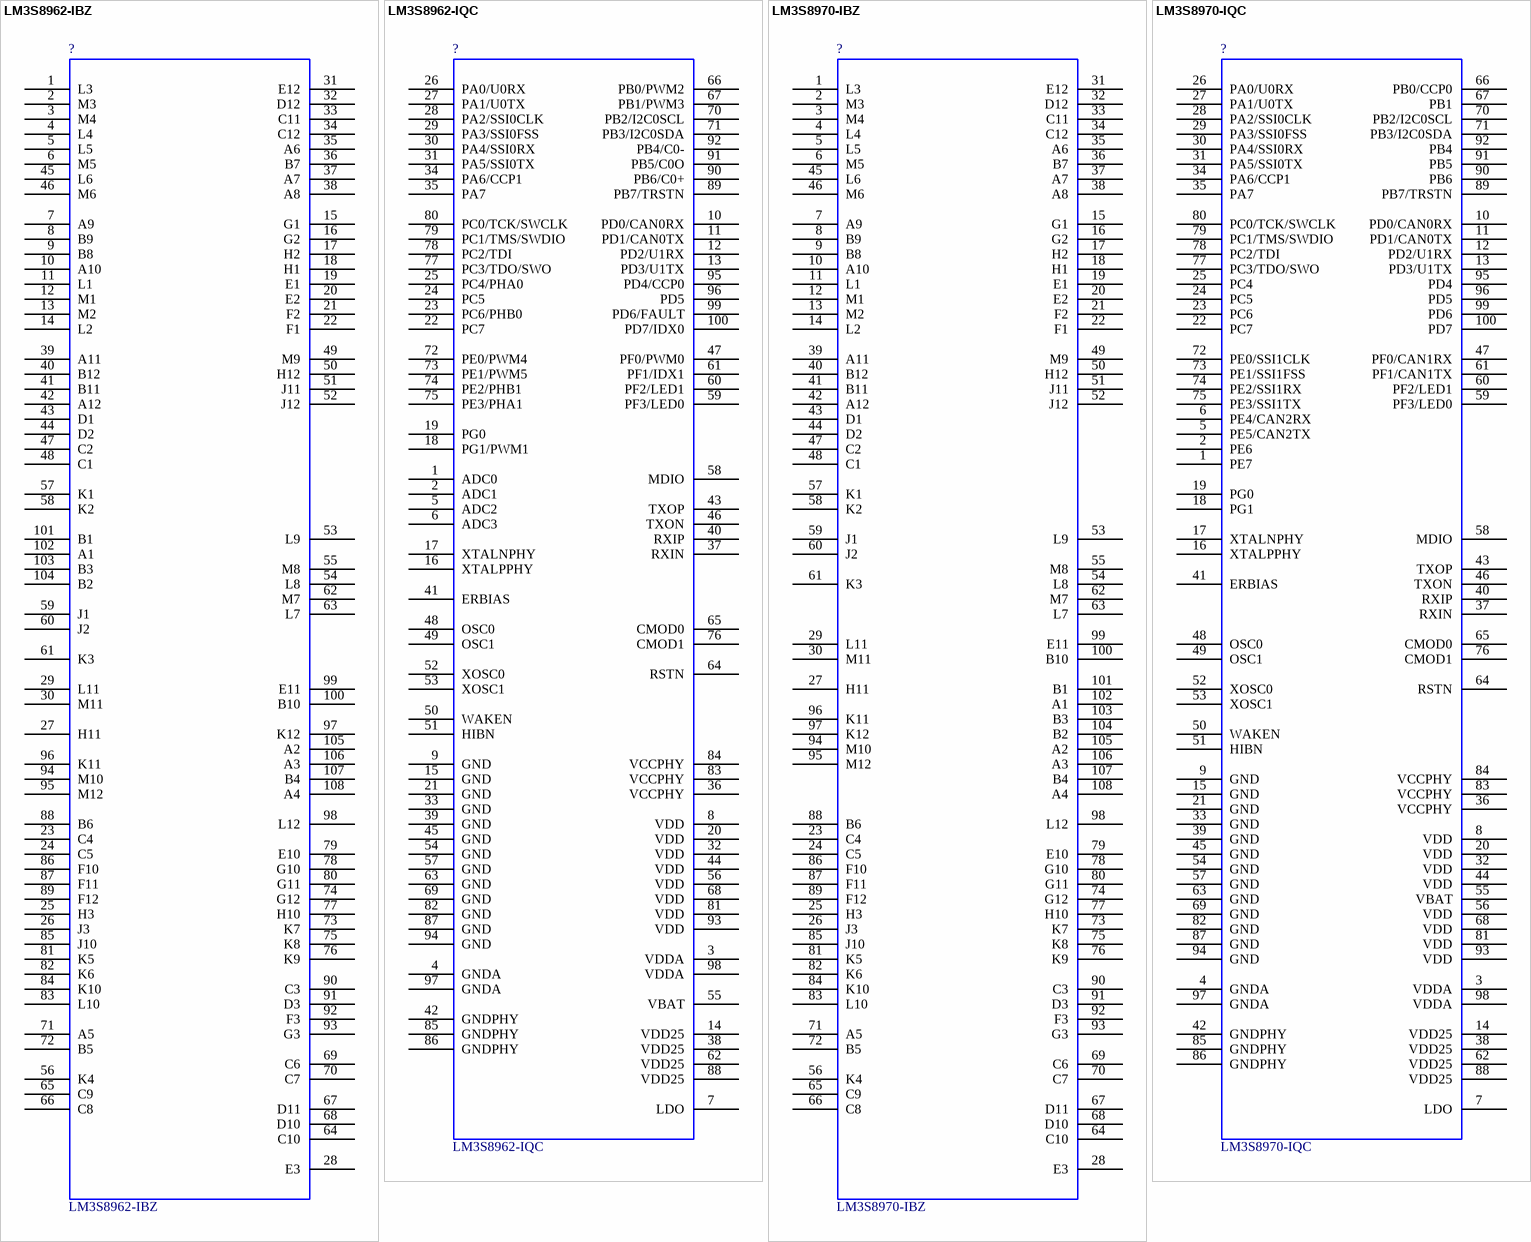
[diagram p66: symbols LM3S8962-IBZ to LM3S8970-IQC]

## LM3S8962-IBZ
designator ?  Comment_1: LM3S8962-IBZ  (hidden comment: *)
Stellaris ARM Cortex-M3 Microcontroller; Manufacturer #1: Luminary Micro; LMI Class: Fury; Designator: U; Part Number: LM3S8962-IBZ
footprint BGA108C80P12X12_1000X1000X150
pins: 1 L3, 2 M3, 3 M4, 4 L4, 5 L5, 6 M5, 7 A9, 8 B9, 9 B8, 10 A10, 11 L1, 12 M1, 13 M2, 14 L2, 15 G1, 16 G2, 17 H2, 18 H1, 19 E1, 20 E2, 21 F2, 22 F1, 23 C4, 24 C5, 25 H3, 26 J3, 27 H11, 28 E3, 29 L11, 30 M11, 31 E12, 32 D12, 33 C11, 34 C12, 35 A6, 36 B7, 37 A7, 38 A8, 39 A11, 40 B12, 41 B11, 42 A12, 43 D1, 44 D2, 45 L6, 46 M6, 47 C2, 48 C1, 49 M9, 50 H12, 51 J11, 52 J12, 53 L9, 54 L8, 55 M8, 56 K4, 57 K1, 58 K2, 59 J1, 60 J2, 61 K3, 62 M7, 63 L7, 64 C10, 65 C9, 66 C8, 67 D11, 68 D10, 69 C6, 70 C7, 71 A5, 72 B5, 73 K7, 74 G12, 75 K8, 76 K9, 77 H10, 78 G10, 79 E10, 80 G11, 81 K5, 82 K6, 83 L10, 84 K10, 85 J10, 86 F10, 87 F11, 88 B6, 89 F12, 90 C3, 91 D3, 92 F3, 93 G3, 94 M10, 95 M12, 96 K11, 97 K12, 98 L12, 99 E11, 100 B10, 101 B1, 102 A1, 103 B3, 104 B2, 105 A2, 106 A3, 107 B4, 108 A4

## LM3S8962-IQC
designator ?  Comment_1: LM3S8962-IQC  (hidden comment: *)
Stellaris ARM Cortex-M3 Microcontroller; Manufacturer #1: Luminary Micro; LMI Class: Fury; Designator: U; Part Number: LM3S8962-IQC
footprint QFP50P1600X1600X160-100N
pins: 1 ADC0, 2 ADC1, 3 VDDA, 4 GNDA, 5 ADC2, 6 ADC3, 7 LDO, 8 VDD, 9 GND, 10 PD0/CAN0RX, 11 PD1/CAN0TX, 12 PD2/U1RX, 13 PD3/U1TX, 14 VDD25, 15 GND, 16 XTALPPHY, 17 XTALNPHY, 18 PG1/PWM1, 19 PG0, 20 VDD, 21 GND, 22 PC7, 23 PC6/PHB0, 24 PC5, 25 PC4/PHA0, 26 PA0/U0RX, 27 PA1/U0TX, 28 PA2/SSI0CLK, 29 PA3/SSI0FSS, 30 PA4/SSI0RX, 31 PA5/SSI0TX, 32 VDD, 33 GND, 34 PA6/CCP1, 35 PA7, 36 VCCPHY, 37 RXIN, 38 VDD25, 39 GND, 40 RXIP, 41 ERBIAS, 42 GNDPHY, 43 TXOP, 44 VDD, 45 GND, 46 TXON, 47 PF0/PWM0, 48 OSC0, 49 OSC1, 50 WAKEN, 51 HIBN, 52 XOSC0, 53 XOSC1, 54 GND, 55 VBAT, 56 VDD, 57 GND, 58 MDIO, 59 PF3/LED0, 60 PF2/LED1, 61 PF1/IDX1, 62 VDD25, 63 GND, 64 RSTN, 65 CMOD0, 66 PB0/PWM2, 67 PB1/PWM3, 68 VDD, 69 GND, 70 PB2/I2C0SCL, 71 PB3/I2C0SDA, 72 PE0/PWM4, 73 PE1/PWM5, 74 PE2/PHB1, 75 PE3/PHA1, 76 CMOD1, 77 PC3/TDO/SWO, 78 PC2/TDI, 79 PC1/TMS/SWDIO, 80 PC0/TCK/SWCLK, 81 VDD, 82 GND, 83 VCCPHY, 84 VCCPHY, 85 GNDPHY, 86 GNDPHY, 87 GND, 88 VDD25, 89 PB7/TRSTN, 90 PB6/C0+, 91 PB5/C0O, 92 PB4/C0-, 93 VDD, 94 GND, 95 PD4/CCP0, 96 PD5, 97 GNDA, 98 VDDA, 99 PD6/FAULT, 100 PD7/IDX0

## LM3S8970-IBZ
designator ?  Comment_1: LM3S8970-IBZ  (hidden comment: *)
Stellaris ARM Cortex-M3 Microcontroller; Manufacturer #1: Luminary Micro; LMI Class: Fury; Designator: U; Part Number: LM3S8970-IBZ
footprint BGA108C80P12X12_1000X1000X150
pins: 1 L3, 2 M3, 3 M4, 4 L4, 5 L5, 6 M5, 7 A9, 8 B9, 9 B8, 10 A10, 11 L1, 12 M1, 13 M2, 14 L2, 15 G1, 16 G2, 17 H2, 18 H1, 19 E1, 20 E2, 21 F2, 22 F1, 23 C4, 24 C5, 25 H3, 26 J3, 27 H11, 28 E3, 29 L11, 30 M11, 31 E12, 32 D12, 33 C11, 34 C12, 35 A6, 36 B7, 37 A7, 38 A8, 39 A11, 40 B12, 41 B11, 42 A12, 43 D1, 44 D2, 45 L6, 46 M6, 47 C2, 48 C1, 49 M9, 50 H12, 51 J11, 52 J12, 53 L9, 54 L8, 55 M8, 56 K4, 57 K1, 58 K2, 59 J1, 60 J2, 61 K3, 62 M7, 63 L7, 64 C10, 65 C9, 66 C8, 67 D11, 68 D10, 69 C6, 70 C7, 71 A5, 72 B5, 73 K7, 74 G12, 75 K8, 76 K9, 77 H10, 78 G10, 79 E10, 80 G11, 81 K5, 82 K6, 83 L10, 84 K10, 85 J10, 86 F10, 87 F11, 88 B6, 89 F12, 90 C3, 91 D3, 92 F3, 93 G3, 94 M10, 95 M12, 96 K11, 97 K12, 98 L12, 99 E11, 100 B10, 101 B1, 102 A1, 103 B3, 104 B2, 105 A2, 106 A3, 107 B4, 108 A4

## LM3S8970-IQC
designator ?  Comment_1: LM3S8970-IQC  (hidden comment: *)
Stellaris ARM Cortex-M3 Microcontroller; Manufacturer #1: Luminary Micro; LMI Class: Fury; Designator: U; Part Number: LM3S8970-IQC
footprint QFP50P1600X1600X160-100N
pins: 1 PE7, 2 PE6, 3 VDDA, 4 GNDA, 5 PE5/CAN2TX, 6 PE4/CAN2RX, 7 LDO, 8 VDD, 9 GND, 10 PD0/CAN0RX, 11 PD1/CAN0TX, 12 PD2/U1RX, 13 PD3/U1TX, 14 VDD25, 15 GND, 16 XTALPPHY, 17 XTALNPHY, 18 PG1, 19 PG0, 20 VDD, 21 GND, 22 PC7, 23 PC6, 24 PC5, 25 PC4, 26 PA0/U0RX, 27 PA1/U0TX, 28 PA2/SSI0CLK, 29 PA3/SSI0FSS, 30 PA4/SSI0RX, 31 PA5/SSI0TX, 32 VDD, 33 GND, 34 PA6/CCP1, 35 PA7, 36 VCCPHY, 37 RXIN, 38 VDD25, 39 GND, 40 RXIP, 41 ERBIAS, 42 GNDPHY, 43 TXOP, 44 VDD, 45 GND, 46 TXON, 47 PF0/CAN1RX, 48 OSC0, 49 OSC1, 50 WAKEN, 51 HIBN, 52 XOSC0, 53 XOSC1, 54 GND, 55 VBAT, 56 VDD, 57 GND, 58 MDIO, 59 PF3/LED0, 60 PF2/LED1, 61 PF1/CAN1TX, 62 VDD25, 63 GND, 64 RSTN, 65 CMOD0, 66 PB0/CCP0, 67 PB1, 68 VDD, 69 GND, 70 PB2/I2C0SCL, 71 PB3/I2C0SDA, 72 PE0/SSI1CLK, 73 PE1/SSI1FSS, 74 PE2/SSI1RX, 75 PE3/SSI1TX, 76 CMOD1, 77 PC3/TDO/SWO, 78 PC2/TDI, 79 PC1/TMS/SWDIO, 80 PC0/TCK/SWCLK, 81 VDD, 82 GND, 83 VCCPHY, 84 VCCPHY, 85 GNDPHY, 86 GNDPHY, 87 GND, 88 VDD25, 89 PB7/TRSTN, 90 PB6, 91 PB5, 92 PB4, 93 VDD, 94 GND, 95 PD4, 96 PD5, 97 GNDA, 98 VDDA, 99 PD6, 100 PD7

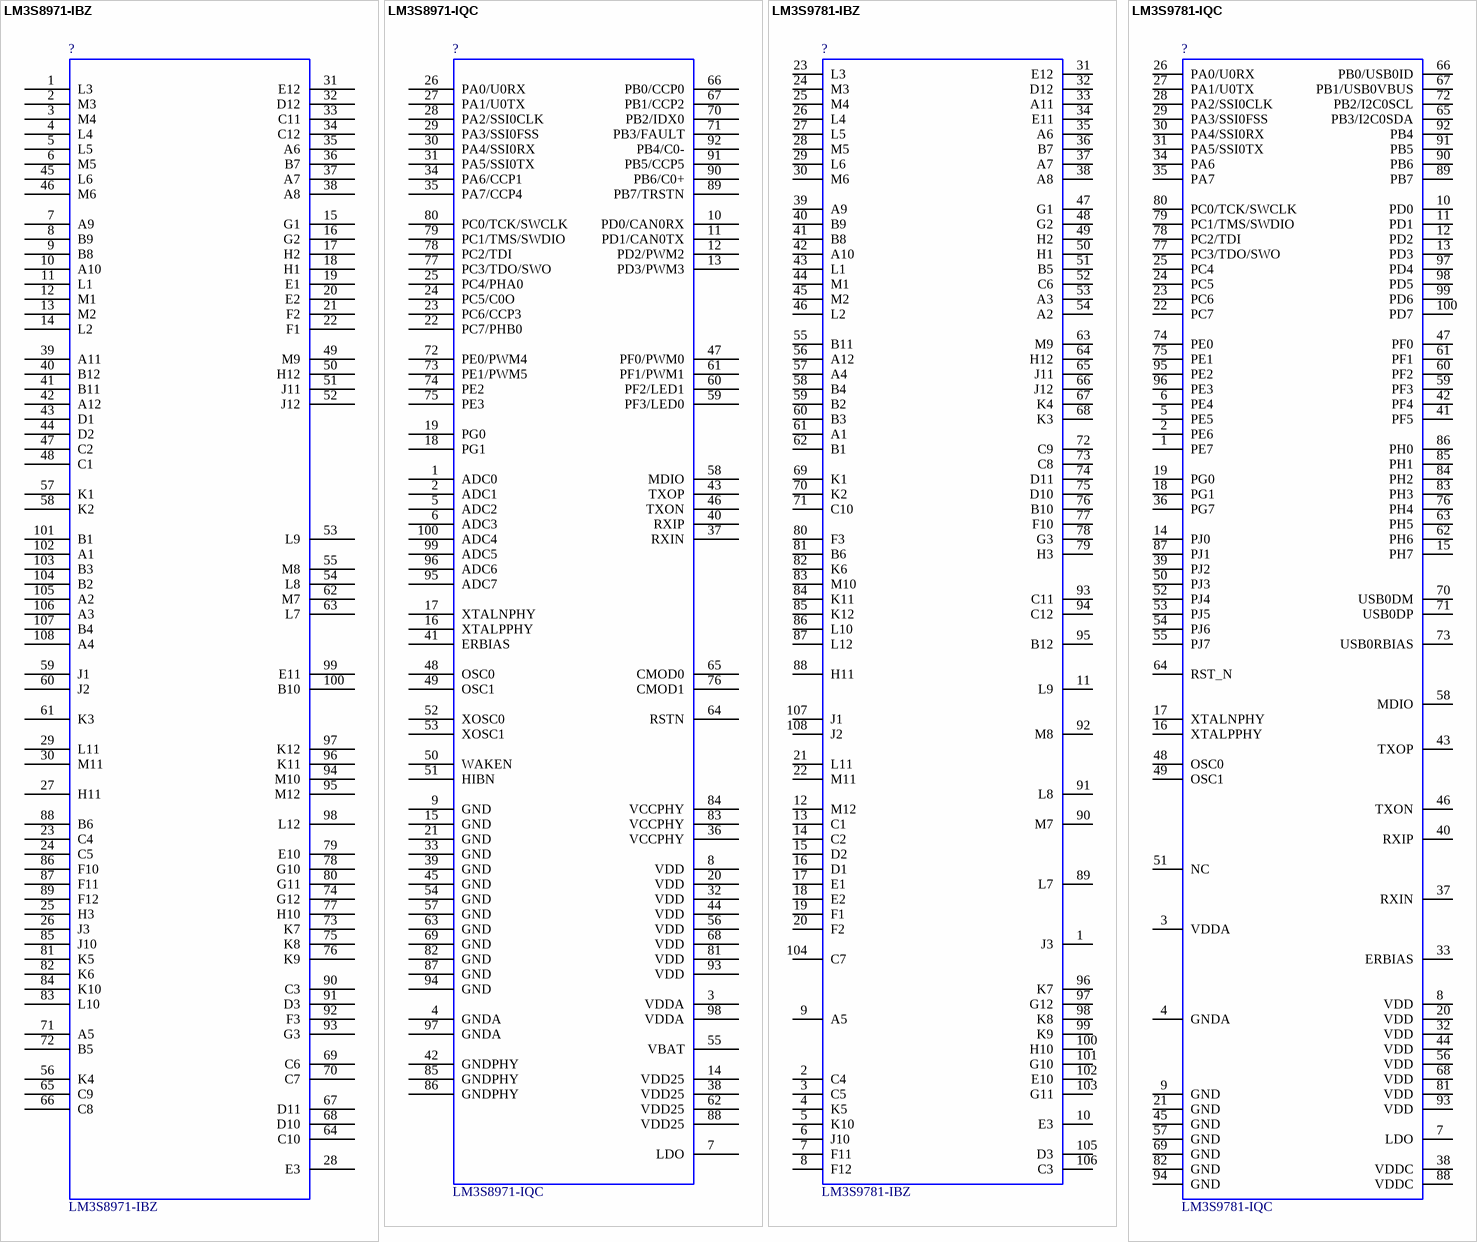
[diagram p67: symbols LM3S8971-IBZ to LM3S9781-IQC]

## LM3S8971-IBZ
designator ?  Comment_1: LM3S8971-IBZ  (hidden comment: *)
Stellaris ARM Cortex-M3 Microcontroller; Manufacturer #1: Luminary Micro; LMI Class: Fury; Designator: U; Part Number: LM3S8971-IBZ
footprint BGA108C80P12X12_1000X1000X150
pins: 1 L3, 2 M3, 3 M4, 4 L4, 5 L5, 6 M5, 7 A9, 8 B9, 9 B8, 10 A10, 11 L1, 12 M1, 13 M2, 14 L2, 15 G1, 16 G2, 17 H2, 18 H1, 19 E1, 20 E2, 21 F2, 22 F1, 23 C4, 24 C5, 25 H3, 26 J3, 27 H11, 28 E3, 29 L11, 30 M11, 31 E12, 32 D12, 33 C11, 34 C12, 35 A6, 36 B7, 37 A7, 38 A8, 39 A11, 40 B12, 41 B11, 42 A12, 43 D1, 44 D2, 45 L6, 46 M6, 47 C2, 48 C1, 49 M9, 50 H12, 51 J11, 52 J12, 53 L9, 54 L8, 55 M8, 56 K4, 57 K1, 58 K2, 59 J1, 60 J2, 61 K3, 62 M7, 63 L7, 64 C10, 65 C9, 66 C8, 67 D11, 68 D10, 69 C6, 70 C7, 71 A5, 72 B5, 73 K7, 74 G12, 75 K8, 76 K9, 77 H10, 78 G10, 79 E10, 80 G11, 81 K5, 82 K6, 83 L10, 84 K10, 85 J10, 86 F10, 87 F11, 88 B6, 89 F12, 90 C3, 91 D3, 92 F3, 93 G3, 94 M10, 95 M12, 96 K11, 97 K12, 98 L12, 99 E11, 100 B10, 101 B1, 102 A1, 103 B3, 104 B2, 105 A2, 106 A3, 107 B4, 108 A4

## LM3S8971-IQC
designator ?  Comment_1: LM3S8971-IQC  (hidden comment: *)
Stellaris ARM Cortex-M3 Microcontroller; Manufacturer #1: Luminary Micro; LMI Class: Fury; Designator: U; Part Number: LM3S8971-IQC
footprint QFP50P1600X1600X160-100N
pins: 1 ADC0, 2 ADC1, 3 VDDA, 4 GNDA, 5 ADC2, 6 ADC3, 7 LDO, 8 VDD, 9 GND, 10 PD0/CAN0RX, 11 PD1/CAN0TX, 12 PD2/PWM2, 13 PD3/PWM3, 14 VDD25, 15 GND, 16 XTALPPHY, 17 XTALNPHY, 18 PG1, 19 PG0, 20 VDD, 21 GND, 22 PC7/PHB0, 23 PC6/CCP3, 24 PC5/C0O, 25 PC4/PHA0, 26 PA0/U0RX, 27 PA1/U0TX, 28 PA2/SSI0CLK, 29 PA3/SSI0FSS, 30 PA4/SSI0RX, 31 PA5/SSI0TX, 32 VDD, 33 GND, 34 PA6/CCP1, 35 PA7/CCP4, 36 VCCPHY, 37 RXIN, 38 VDD25, 39 GND, 40 RXIP, 41 ERBIAS, 42 GNDPHY, 43 TXOP, 44 VDD, 45 GND, 46 TXON, 47 PF0/PWM0, 48 OSC0, 49 OSC1, 50 WAKEN, 51 HIBN, 52 XOSC0, 53 XOSC1, 54 GND, 55 VBAT, 56 VDD, 57 GND, 58 MDIO, 59 PF3/LED0, 60 PF2/LED1, 61 PF1/PWM1, 62 VDD25, 63 GND, 64 RSTN, 65 CMOD0, 66 PB0/CCP0, 67 PB1/CCP2, 68 VDD, 69 GND, 70 PB2/IDX0, 71 PB3/FAULT, 72 PE0/PWM4, 73 PE1/PWM5, 74 PE2, 75 PE3, 76 CMOD1, 77 PC3/TDO/SWO, 78 PC2/TDI, 79 PC1/TMS/SWDIO, 80 PC0/TCK/SWCLK, 81 VDD, 82 GND, 83 VCCPHY, 84 VCCPHY, 85 GNDPHY, 86 GNDPHY, 87 GND, 88 VDD25, 89 PB7/TRSTN, 90 PB6/C0+, 91 PB5/CCP5, 92 PB4/C0-, 93 VDD, 94 GND, 95 ADC7, 96 ADC6, 97 GNDA, 98 VDDA, 99 ADC5, 100 ADC4

## LM3S9781-IBZ
designator ?
Stellaris ARM Cortex-M3 Microcontroller; Manufacturer #1: Texas Instruments; Stellaris Class: Tempest; Part Number: LM3S9781-IBZ
footprint BGA108C80P12X12_1000X1000X150
pins: 1 J3, 2 C4, 3 C5, 4 K5, 5 K10, 6 J10, 7 F11, 8 F12, 9 A5, 10 E3, 11 L9, 12 M12, 13 C1, 14 C2, 15 D2, 16 D1, 17 E1, 18 E2, 19 F1, 20 F2, 21 L11, 22 M11, 23 L3, 24 M3, 25 M4, 26 L4, 27 L5, 28 M5, 29 L6, 30 M6, 31 E12, 32 D12, 33 A11, 34 E11, 35 A6, 36 B7, 37 A7, 38 A8, 39 A9, 40 B9, 41 B8, 42 A10, 43 L1, 44 M1, 45 M2, 46 L2, 47 G1, 48 G2, 49 H2, 50 H1, 51 B5, 52 C6, 53 A3, 54 A2, 55 B11, 56 A12, 57 A4, 58 B4, 59 B2, 60 B3, 61 A1, 62 B1, 63 M9, 64 H12, 65 J11, 66 J12, 67 K4, 68 K3, 69 K1, 70 K2, 71 C10, 72 C9, 73 C8, 74 D11, 75 D10, 76 B10, 77 F10, 78 G3, 79 H3, 80 F3, 81 B6, 82 K6, 83 M10, 84 K11, 85 K12, 86 L10, 87 L12, 88 H11, 89 L7, 90 M7, 91 L8, 92 M8, 93 C11, 94 C12, 95 B12, 96 K7, 97 G12, 98 K8, 99 K9, 100 H10, 101 G10, 102 E10, 103 G11, 104 C7, 105 D3, 106 C3, 107 J1, 108 J2

## LM3S9781-IQC
designator ?
Stellaris ARM Cortex-M3 Microcontroller; Manufacturer #1: Texas Instruments; Stellaris Class: Tempest; Part Number: LM3S9781-IQC
footprint QFP50P1600X1600X160-100N
pins: 1 PE7, 2 PE6, 3 VDDA, 4 GNDA, 5 PE5, 6 PE4, 7 LDO, 8 VDD, 9 GND, 10 PD0, 11 PD1, 12 PD2, 13 PD3, 14 PJ0, 15 PH7, 16 XTALPPHY, 17 XTALNPHY, 18 PG1, 19 PG0, 20 VDD, 21 GND, 22 PC7, 23 PC6, 24 PC5, 25 PC4, 26 PA0/U0RX, 27 PA1/U0TX, 28 PA2/SSI0CLK, 29 PA3/SSI0FSS, 30 PA4/SSI0RX, 31 PA5/SSI0TX, 32 VDD, 33 ERBIAS, 34 PA6, 35 PA7, 36 PG7, 37 RXIN, 38 VDDC, 39 PJ2, 40 RXIP, 41 PF5, 42 PF4, 43 TXOP, 44 VDD, 45 GND, 46 TXON, 47 PF0, 48 OSC0, 49 OSC1, 50 PJ3, 51 NC, 52 PJ4, 53 PJ5, 54 PJ6, 55 PJ7, 56 VDD, 57 GND, 58 MDIO, 59 PF3, 60 PF2, 61 PF1, 62 PH6, 63 PH5, 64 RST_N, 65 PB3/I2C0SDA, 66 PB0/USB0ID, 67 PB1/USB0VBUS, 68 VDD, 69 GND, 70 USB0DM, 71 USB0DP, 72 PB2/I2C0SCL, 73 USB0RBIAS, 74 PE0, 75 PE1, 76 PH4, 77 PC3/TDO/SWO, 78 PC2/TDI, 79 PC1/TMS/SWDIO, 80 PC0/TCK/SWCLK, 81 VDD, 82 GND, 83 PH3, 84 PH2, 85 PH1, 86 PH0, 87 PJ1, 88 VDDC, 89 PB7, 90 PB6, 91 PB5, 92 PB4, 93 VDD, 94 GND, 95 PE2, 96 PE3, 97 PD4, 98 PD5, 99 PD6, 100 PD7

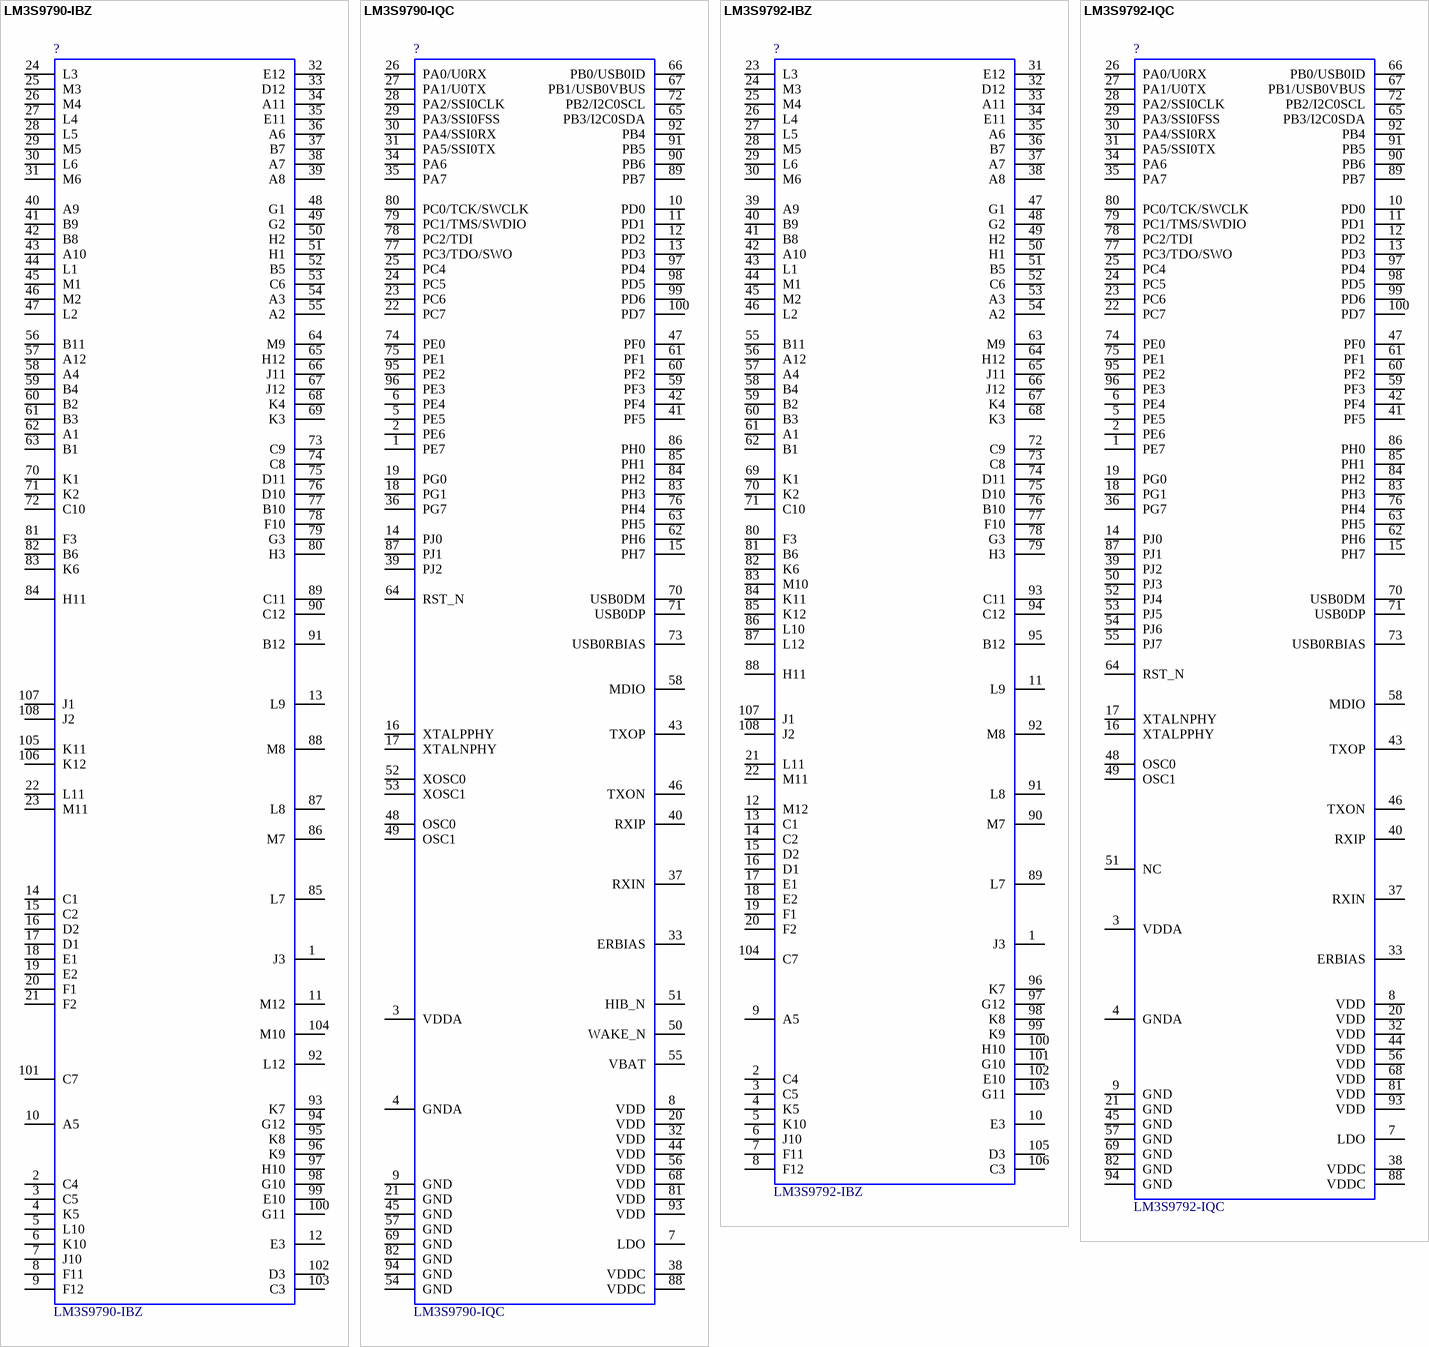
[diagram p68: symbols LM3S9790-IBZ to LM3S9792-IQC]

## LM3S9790-IBZ
designator ?
Stellaris ARM Cortex-M3 Microcontroller; Manufacturer #1: Texas Instruments; Stellaris Class: Tempest; Part Number: LM3S9790-IBZ
footprint BGA108C80P12X12_1000X1000X150
pins: 1 J3, 2 C4, 3 C5, 4 K5, 5 L10, 6 K10, 7 J10, 8 F11, 9 F12, 10 A5, 11 M12, 12 E3, 13 L9, 14 C1, 15 C2, 16 D2, 17 D1, 18 E1, 19 E2, 20 F1, 21 F2, 22 L11, 23 M11, 24 L3, 25 M3, 26 M4, 27 L4, 28 L5, 29 M5, 30 L6, 31 M6, 32 E12, 33 D12, 34 A11, 35 E11, 36 A6, 37 B7, 38 A7, 39 A8, 40 A9, 41 B9, 42 B8, 43 A10, 44 L1, 45 M1, 46 M2, 47 L2, 48 G1, 49 G2, 50 H2, 51 H1, 52 B5, 53 C6, 54 A3, 55 A2, 56 B11, 57 A12, 58 A4, 59 B4, 60 B2, 61 B3, 62 A1, 63 B1, 64 M9, 65 H12, 66 J11, 67 J12, 68 K4, 69 K3, 70 K1, 71 K2, 72 C10, 73 C9, 74 C8, 75 D11, 76 D10, 77 B10, 78 F10, 79 G3, 80 H3, 81 F3, 82 B6, 83 K6, 84 H11, 85 L7, 86 M7, 87 L8, 88 M8, 89 C11, 90 C12, 91 B12, 92 L12, 93 K7, 94 G12, 95 K8, 96 K9, 97 H10, 98 G10, 99 E10, 100 G11, 101 C7, 102 D3, 103 C3, 104 M10, 105 K11, 106 K12, 107 J1, 108 J2

## LM3S9790-IQC
designator ?
Stellaris ARM Cortex-M3 Microcontroller; Manufacturer #1: Texas Instruments; Stellaris Class: Tempest; Part Number: LM3S9790-IQC
footprint QFP50P1600X1600X160-100N
pins: 1 PE7, 2 PE6, 3 VDDA, 4 GNDA, 5 PE5, 6 PE4, 7 LDO, 8 VDD, 9 GND, 10 PD0, 11 PD1, 12 PD2, 13 PD3, 14 PJ0, 15 PH7, 16 XTALPPHY, 17 XTALNPHY, 18 PG1, 19 PG0, 20 VDD, 21 GND, 22 PC7, 23 PC6, 24 PC5, 25 PC4, 26 PA0/U0RX, 27 PA1/U0TX, 28 PA2/SSI0CLK, 29 PA3/SSI0FSS, 30 PA4/SSI0RX, 31 PA5/SSI0TX, 32 VDD, 33 ERBIAS, 34 PA6, 35 PA7, 36 PG7, 37 RXIN, 38 VDDC, 39 PJ2, 40 RXIP, 41 PF5, 42 PF4, 43 TXOP, 44 VDD, 45 GND, 46 TXON, 47 PF0, 48 OSC0, 49 OSC1, 50 WAKE_N, 51 HIB_N, 52 XOSC0, 53 XOSC1, 54 GND, 55 VBAT, 56 VDD, 57 GND, 58 MDIO, 59 PF3, 60 PF2, 61 PF1, 62 PH6, 63 PH5, 64 RST_N, 65 PB3/I2C0SDA, 66 PB0/USB0ID, 67 PB1/USB0VBUS, 68 VDD, 69 GND, 70 USB0DM, 71 USB0DP, 72 PB2/I2C0SCL, 73 USB0RBIAS, 74 PE0, 75 PE1, 76 PH4, 77 PC3/TDO/SWO, 78 PC2/TDI, 79 PC1/TMS/SWDIO, 80 PC0/TCK/SWCLK, 81 VDD, 82 GND, 83 PH3, 84 PH2, 85 PH1, 86 PH0, 87 PJ1, 88 VDDC, 89 PB7, 90 PB6, 91 PB5, 92 PB4, 93 VDD, 94 GND, 95 PE2, 96 PE3, 97 PD4, 98 PD5, 99 PD6, 100 PD7

## LM3S9792-IBZ
designator ?
Stellaris ARM Cortex-M3 Microcontroller; Manufacturer #1: Texas Instruments; Stellaris Class: Tempest; Part Number: LM3S9792-IBZ
footprint BGA108C80P12X12_1000X1000X150
pins: 1 J3, 2 C4, 3 C5, 4 K5, 5 K10, 6 J10, 7 F11, 8 F12, 9 A5, 10 E3, 11 L9, 12 M12, 13 C1, 14 C2, 15 D2, 16 D1, 17 E1, 18 E2, 19 F1, 20 F2, 21 L11, 22 M11, 23 L3, 24 M3, 25 M4, 26 L4, 27 L5, 28 M5, 29 L6, 30 M6, 31 E12, 32 D12, 33 A11, 34 E11, 35 A6, 36 B7, 37 A7, 38 A8, 39 A9, 40 B9, 41 B8, 42 A10, 43 L1, 44 M1, 45 M2, 46 L2, 47 G1, 48 G2, 49 H2, 50 H1, 51 B5, 52 C6, 53 A3, 54 A2, 55 B11, 56 A12, 57 A4, 58 B4, 59 B2, 60 B3, 61 A1, 62 B1, 63 M9, 64 H12, 65 J11, 66 J12, 67 K4, 68 K3, 69 K1, 70 K2, 71 C10, 72 C9, 73 C8, 74 D11, 75 D10, 76 B10, 77 F10, 78 G3, 79 H3, 80 F3, 81 B6, 82 K6, 83 M10, 84 K11, 85 K12, 86 L10, 87 L12, 88 H11, 89 L7, 90 M7, 91 L8, 92 M8, 93 C11, 94 C12, 95 B12, 96 K7, 97 G12, 98 K8, 99 K9, 100 H10, 101 G10, 102 E10, 103 G11, 104 C7, 105 D3, 106 C3, 107 J1, 108 J2

## LM3S9792-IQC
designator ?
Stellaris ARM Cortex-M3 Microcontroller; Manufacturer #1: Texas Instruments; Stellaris Class: Tempest; Part Number: LM3S9792-IQC
footprint QFP50P1600X1600X160-100N
pins: 1 PE7, 2 PE6, 3 VDDA, 4 GNDA, 5 PE5, 6 PE4, 7 LDO, 8 VDD, 9 GND, 10 PD0, 11 PD1, 12 PD2, 13 PD3, 14 PJ0, 15 PH7, 16 XTALPPHY, 17 XTALNPHY, 18 PG1, 19 PG0, 20 VDD, 21 GND, 22 PC7, 23 PC6, 24 PC5, 25 PC4, 26 PA0/U0RX, 27 PA1/U0TX, 28 PA2/SSI0CLK, 29 PA3/SSI0FSS, 30 PA4/SSI0RX, 31 PA5/SSI0TX, 32 VDD, 33 ERBIAS, 34 PA6, 35 PA7, 36 PG7, 37 RXIN, 38 VDDC, 39 PJ2, 40 RXIP, 41 PF5, 42 PF4, 43 TXOP, 44 VDD, 45 GND, 46 TXON, 47 PF0, 48 OSC0, 49 OSC1, 50 PJ3, 51 NC, 52 PJ4, 53 PJ5, 54 PJ6, 55 PJ7, 56 VDD, 57 GND, 58 MDIO, 59 PF3, 60 PF2, 61 PF1, 62 PH6, 63 PH5, 64 RST_N, 65 PB3/I2C0SDA, 66 PB0/USB0ID, 67 PB1/USB0VBUS, 68 VDD, 69 GND, 70 USB0DM, 71 USB0DP, 72 PB2/I2C0SCL, 73 USB0RBIAS, 74 PE0, 75 PE1, 76 PH4, 77 PC3/TDO/SWO, 78 PC2/TDI, 79 PC1/TMS/SWDIO, 80 PC0/TCK/SWCLK, 81 VDD, 82 GND, 83 PH3, 84 PH2, 85 PH1, 86 PH0, 87 PJ1, 88 VDDC, 89 PB7, 90 PB6, 91 PB5, 92 PB4, 93 VDD, 94 GND, 95 PE2, 96 PE3, 97 PD4, 98 PD5, 99 PD6, 100 PD7

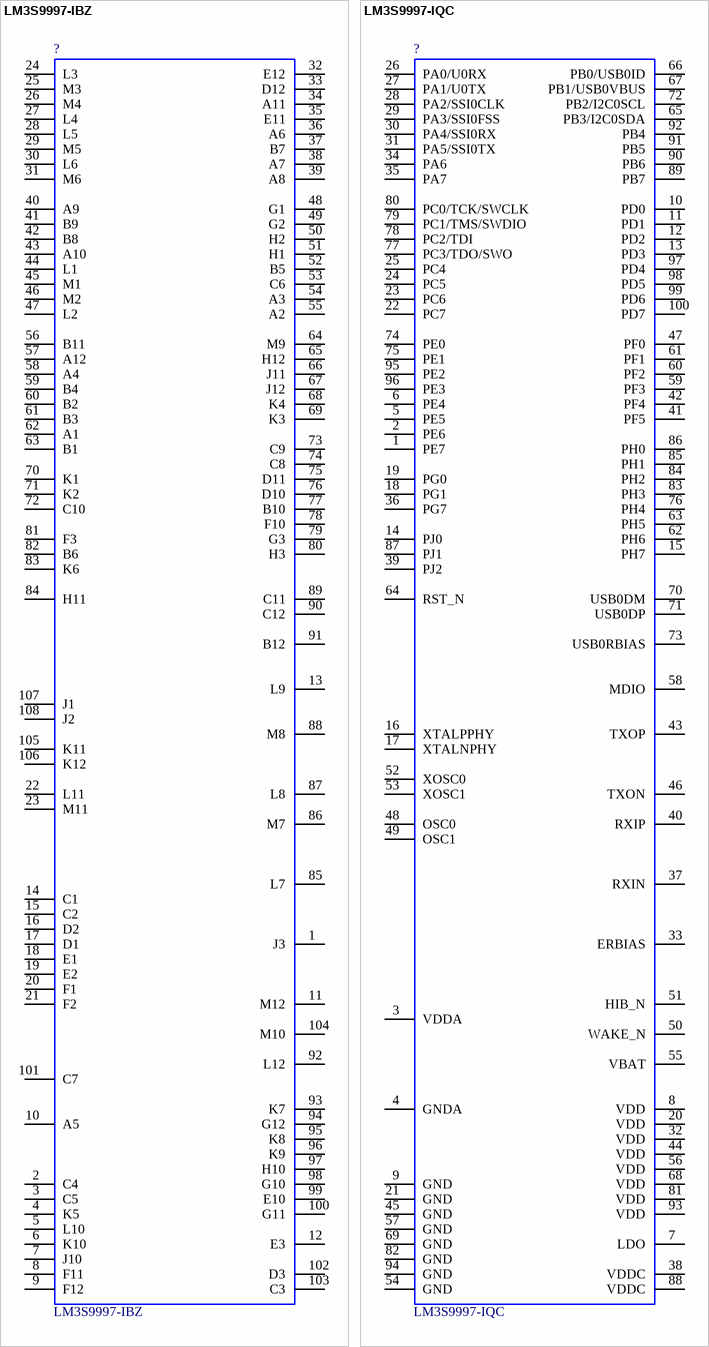
[diagram p69: symbols LM3S9997-IBZ to LM3S9997-IQC]

## LM3S9997-IBZ
designator ?
Stellaris ARM Cortex-M3 Microcontroller; Manufacturer #1: Texas Instruments; Stellaris Class: Tempest; Part Number: LM3S9997-IBZ
footprint BGA108C80P12X12_1000X1000X150
pins: 1 J3, 2 C4, 3 C5, 4 K5, 5 L10, 6 K10, 7 J10, 8 F11, 9 F12, 10 A5, 11 M12, 12 E3, 13 L9, 14 C1, 15 C2, 16 D2, 17 D1, 18 E1, 19 E2, 20 F1, 21 F2, 22 L11, 23 M11, 24 L3, 25 M3, 26 M4, 27 L4, 28 L5, 29 M5, 30 L6, 31 M6, 32 E12, 33 D12, 34 A11, 35 E11, 36 A6, 37 B7, 38 A7, 39 A8, 40 A9, 41 B9, 42 B8, 43 A10, 44 L1, 45 M1, 46 M2, 47 L2, 48 G1, 49 G2, 50 H2, 51 H1, 52 B5, 53 C6, 54 A3, 55 A2, 56 B11, 57 A12, 58 A4, 59 B4, 60 B2, 61 B3, 62 A1, 63 B1, 64 M9, 65 H12, 66 J11, 67 J12, 68 K4, 69 K3, 70 K1, 71 K2, 72 C10, 73 C9, 74 C8, 75 D11, 76 D10, 77 B10, 78 F10, 79 G3, 80 H3, 81 F3, 82 B6, 83 K6, 84 H11, 85 L7, 86 M7, 87 L8, 88 M8, 89 C11, 90 C12, 91 B12, 92 L12, 93 K7, 94 G12, 95 K8, 96 K9, 97 H10, 98 G10, 99 E10, 100 G11, 101 C7, 102 D3, 103 C3, 104 M10, 105 K11, 106 K12, 107 J1, 108 J2

## LM3S9997-IQC
designator ?
Stellaris ARM Cortex-M3 Microcontroller; Manufacturer #1: Texas Instruments; Stellaris Class: Tempest; Part Number: LM3S9997-IQC
footprint QFP50P1600X1600X160-100N
pins: 1 PE7, 2 PE6, 3 VDDA, 4 GNDA, 5 PE5, 6 PE4, 7 LDO, 8 VDD, 9 GND, 10 PD0, 11 PD1, 12 PD2, 13 PD3, 14 PJ0, 15 PH7, 16 XTALPPHY, 17 XTALNPHY, 18 PG1, 19 PG0, 20 VDD, 21 GND, 22 PC7, 23 PC6, 24 PC5, 25 PC4, 26 PA0/U0RX, 27 PA1/U0TX, 28 PA2/SSI0CLK, 29 PA3/SSI0FSS, 30 PA4/SSI0RX, 31 PA5/SSI0TX, 32 VDD, 33 ERBIAS, 34 PA6, 35 PA7, 36 PG7, 37 RXIN, 38 VDDC, 39 PJ2, 40 RXIP, 41 PF5, 42 PF4, 43 TXOP, 44 VDD, 45 GND, 46 TXON, 47 PF0, 48 OSC0, 49 OSC1, 50 WAKE_N, 51 HIB_N, 52 XOSC0, 53 XOSC1, 54 GND, 55 VBAT, 56 VDD, 57 GND, 58 MDIO, 59 PF3, 60 PF2, 61 PF1, 62 PH6, 63 PH5, 64 RST_N, 65 PB3/I2C0SDA, 66 PB0/USB0ID, 67 PB1/USB0VBUS, 68 VDD, 69 GND, 70 USB0DM, 71 USB0DP, 72 PB2/I2C0SCL, 73 USB0RBIAS, 74 PE0, 75 PE1, 76 PH4, 77 PC3/TDO/SWO, 78 PC2/TDI, 79 PC1/TMS/SWDIO, 80 PC0/TCK/SWCLK, 81 VDD, 82 GND, 83 PH3, 84 PH2, 85 PH1, 86 PH0, 87 PJ1, 88 VDDC, 89 PB7, 90 PB6, 91 PB5, 92 PB4, 93 VDD, 94 GND, 95 PE2, 96 PE3, 97 PD4, 98 PD5, 99 PD6, 100 PD7